# Altium schematic symbol library RD3399-20181013_Library.SchLib: 411 symbols (part 2 of 13)
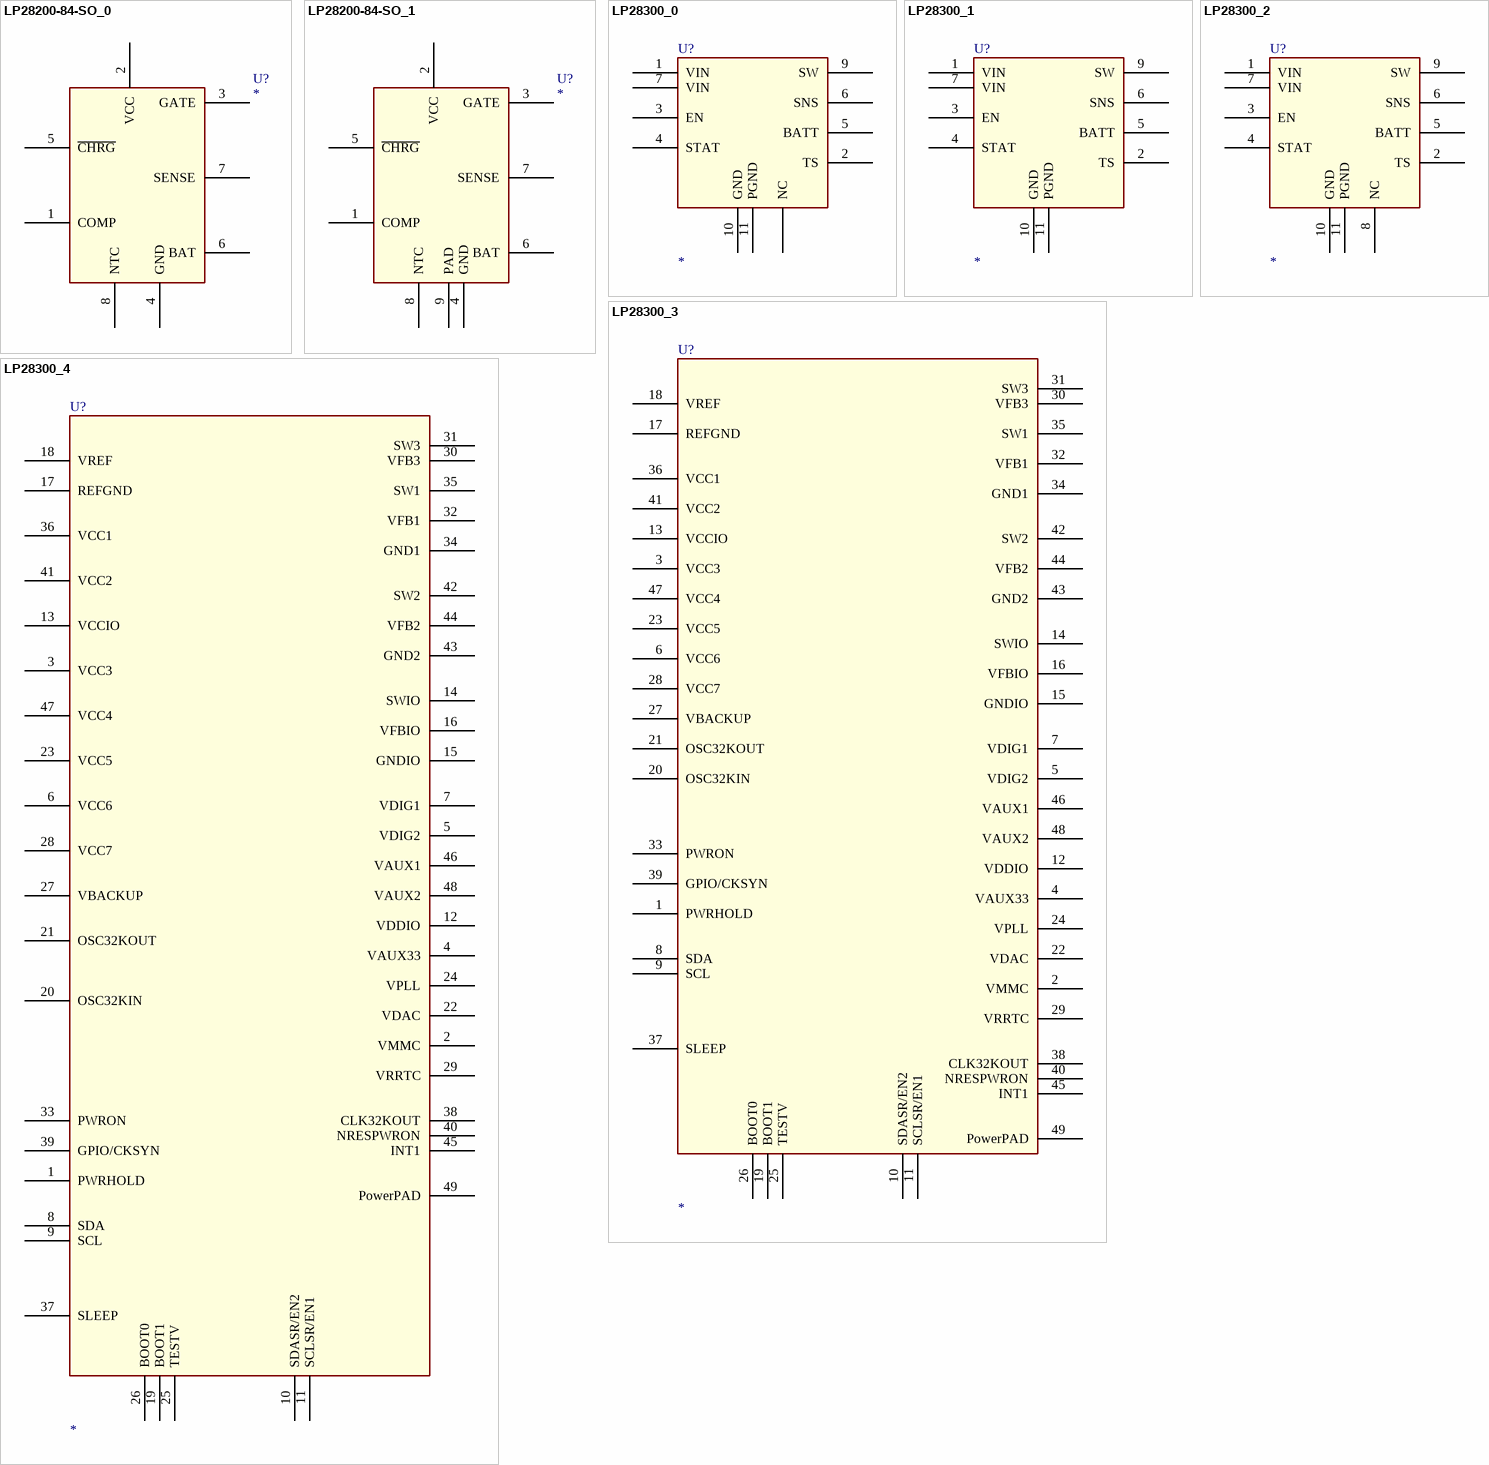
[diagram p186: symbols LP28200-84-SO_0 to LP28300_4]

## LP28300_3
designator U?
footprint TDFN10
pins: 1 PWRHOLD, 2 VMMC, 3 VCC3, 4 VAUX33, 5 VDIG2, 6 VCC6, 7 VDIG1, 8 SDA, 9 SCL, 10 SDASR/EN2, 11 SCLSR/EN1, 12 VDDIO, 13 VCCIO, 14 SWIO, 15 GNDIO, 16 VFBIO, 17 REFGND, 18 VREF, 19 BOOT1, 20 OSC32KIN, 21 OSC32KOUT, 22 VDAC, 23 VCC5, 24 VPLL, 25 TESTV, 26 BOOT0, 27 VBACKUP, 28 VCC7, 29 VRRTC, 30 VFB3, 31 SW3, 32 VFB1, 33 PWRON, 34 GND1, 35 SW1, 36 VCC1, 37 SLEEP, 38 CLK32KOUT, 39 GPIO/CKSYN, 40 NRESPWRON, 41 VCC2, 42 SW2, 43 GND2, 44 VFB2, 45 INT1, 46 VAUX1, 47 VCC4, 48 VAUX2, 49 PowerPAD

## LP28300_4
designator U?
footprint TDFN10
pins: 1 PWRHOLD, 2 VMMC, 3 VCC3, 4 VAUX33, 5 VDIG2, 6 VCC6, 7 VDIG1, 8 SDA, 9 SCL, 10 SDASR/EN2, 11 SCLSR/EN1, 12 VDDIO, 13 VCCIO, 14 SWIO, 15 GNDIO, 16 VFBIO, 17 REFGND, 18 VREF, 19 BOOT1, 20 OSC32KIN, 21 OSC32KOUT, 22 VDAC, 23 VCC5, 24 VPLL, 25 TESTV, 26 BOOT0, 27 VBACKUP, 28 VCC7, 29 VRRTC, 30 VFB3, 31 SW3, 32 VFB1, 33 PWRON, 34 GND1, 35 SW1, 36 VCC1, 37 SLEEP, 38 CLK32KOUT, 39 GPIO/CKSYN, 40 NRESPWRON, 41 VCC2, 42 SW2, 43 GND2, 44 VFB2, 45 INT1, 46 VAUX1, 47 VCC4, 48 VAUX2, 49 PowerPAD

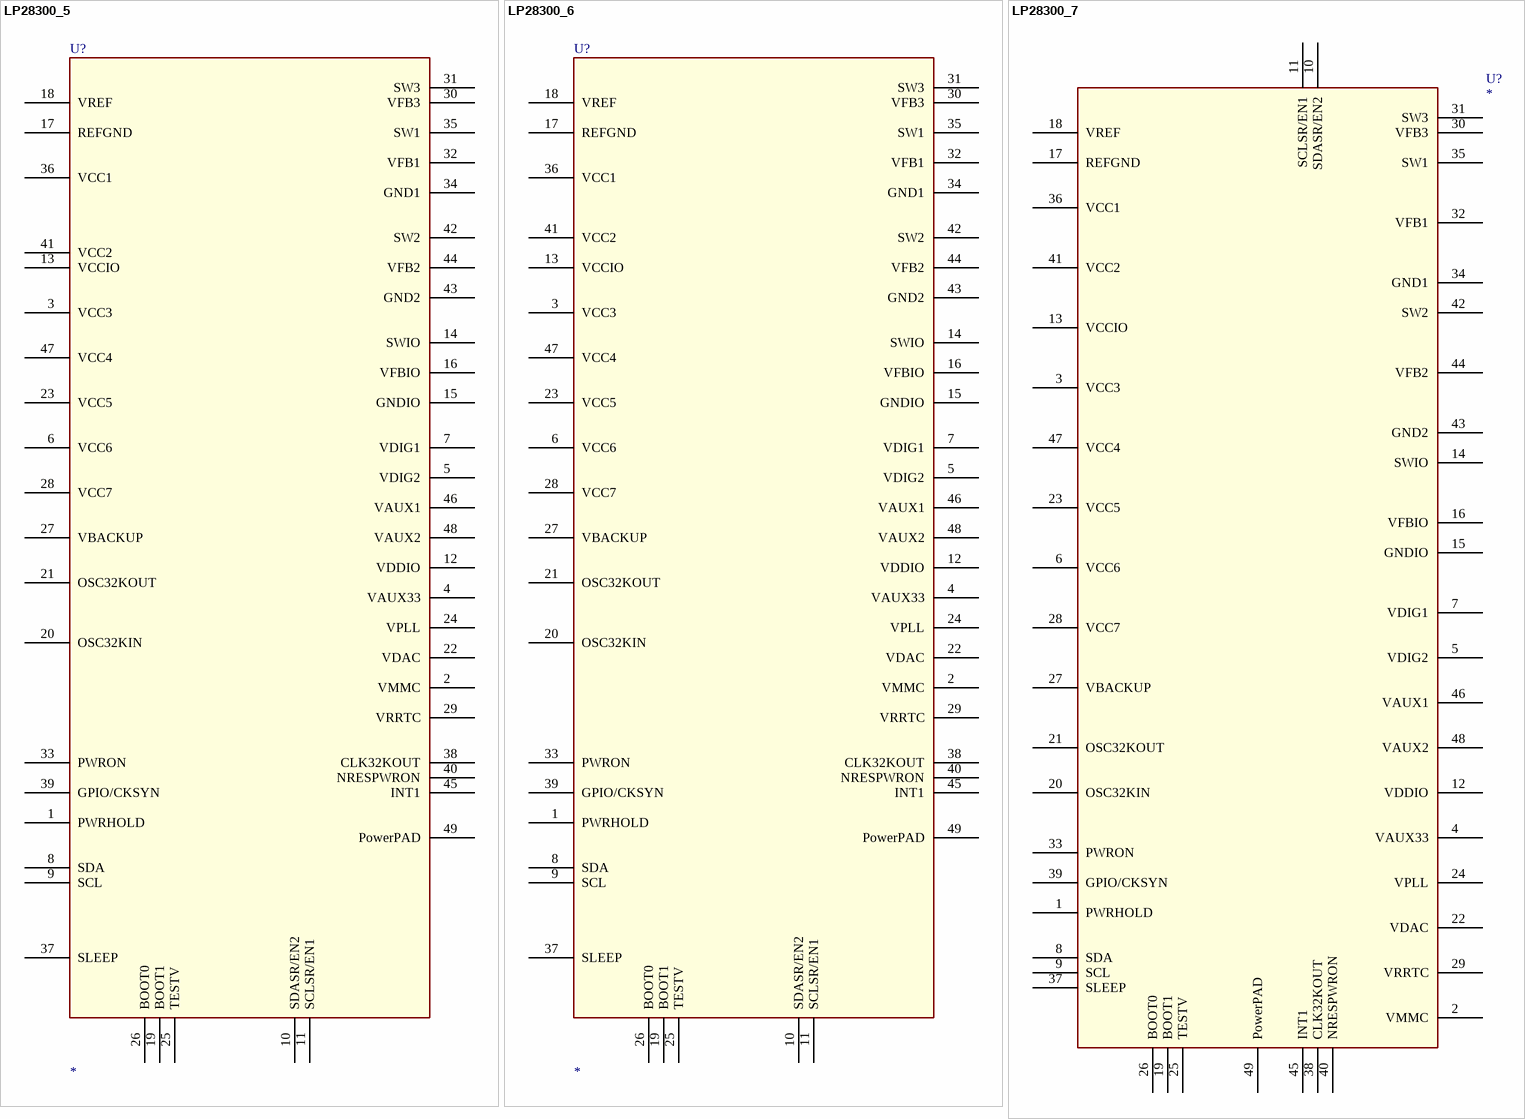
[diagram p14: symbols LP28300_5 to LP28300_7]

## LP28300_5
designator U?
footprint TDFN10
pins: 1 PWRHOLD, 2 VMMC, 3 VCC3, 4 VAUX33, 5 VDIG2, 6 VCC6, 7 VDIG1, 8 SDA, 9 SCL, 10 SDASR/EN2, 11 SCLSR/EN1, 12 VDDIO, 13 VCCIO, 14 SWIO, 15 GNDIO, 16 VFBIO, 17 REFGND, 18 VREF, 19 BOOT1, 20 OSC32KIN, 21 OSC32KOUT, 22 VDAC, 23 VCC5, 24 VPLL, 25 TESTV, 26 BOOT0, 27 VBACKUP, 28 VCC7, 29 VRRTC, 30 VFB3, 31 SW3, 32 VFB1, 33 PWRON, 34 GND1, 35 SW1, 36 VCC1, 37 SLEEP, 38 CLK32KOUT, 39 GPIO/CKSYN, 40 NRESPWRON, 41 VCC2, 42 SW2, 43 GND2, 44 VFB2, 45 INT1, 46 VAUX1, 47 VCC4, 48 VAUX2, 49 PowerPAD

## LP28300_6
designator U?
footprint TDFN10
pins: 1 PWRHOLD, 2 VMMC, 3 VCC3, 4 VAUX33, 5 VDIG2, 6 VCC6, 7 VDIG1, 8 SDA, 9 SCL, 10 SDASR/EN2, 11 SCLSR/EN1, 12 VDDIO, 13 VCCIO, 14 SWIO, 15 GNDIO, 16 VFBIO, 17 REFGND, 18 VREF, 19 BOOT1, 20 OSC32KIN, 21 OSC32KOUT, 22 VDAC, 23 VCC5, 24 VPLL, 25 TESTV, 26 BOOT0, 27 VBACKUP, 28 VCC7, 29 VRRTC, 30 VFB3, 31 SW3, 32 VFB1, 33 PWRON, 34 GND1, 35 SW1, 36 VCC1, 37 SLEEP, 38 CLK32KOUT, 39 GPIO/CKSYN, 40 NRESPWRON, 41 VCC2, 42 SW2, 43 GND2, 44 VFB2, 45 INT1, 46 VAUX1, 47 VCC4, 48 VAUX2, 49 PowerPAD

## LP28300_7
designator U?
footprint TDFN10
pins: 1 PWRHOLD, 2 VMMC, 3 VCC3, 4 VAUX33, 5 VDIG2, 6 VCC6, 7 VDIG1, 8 SDA, 9 SCL, 10 SDASR/EN2, 11 SCLSR/EN1, 12 VDDIO, 13 VCCIO, 14 SWIO, 15 GNDIO, 16 VFBIO, 17 REFGND, 18 VREF, 19 BOOT1, 20 OSC32KIN, 21 OSC32KOUT, 22 VDAC, 23 VCC5, 24 VPLL, 25 TESTV, 26 BOOT0, 27 VBACKUP, 28 VCC7, 29 VRRTC, 30 VFB3, 31 SW3, 32 VFB1, 33 PWRON, 34 GND1, 35 SW1, 36 VCC1, 37 SLEEP, 38 CLK32KOUT, 39 GPIO/CKSYN, 40 NRESPWRON, 41 VCC2, 42 SW2, 43 GND2, 44 VFB2, 45 INT1, 46 VAUX1, 47 VCC4, 48 VAUX2, 49 PowerPAD

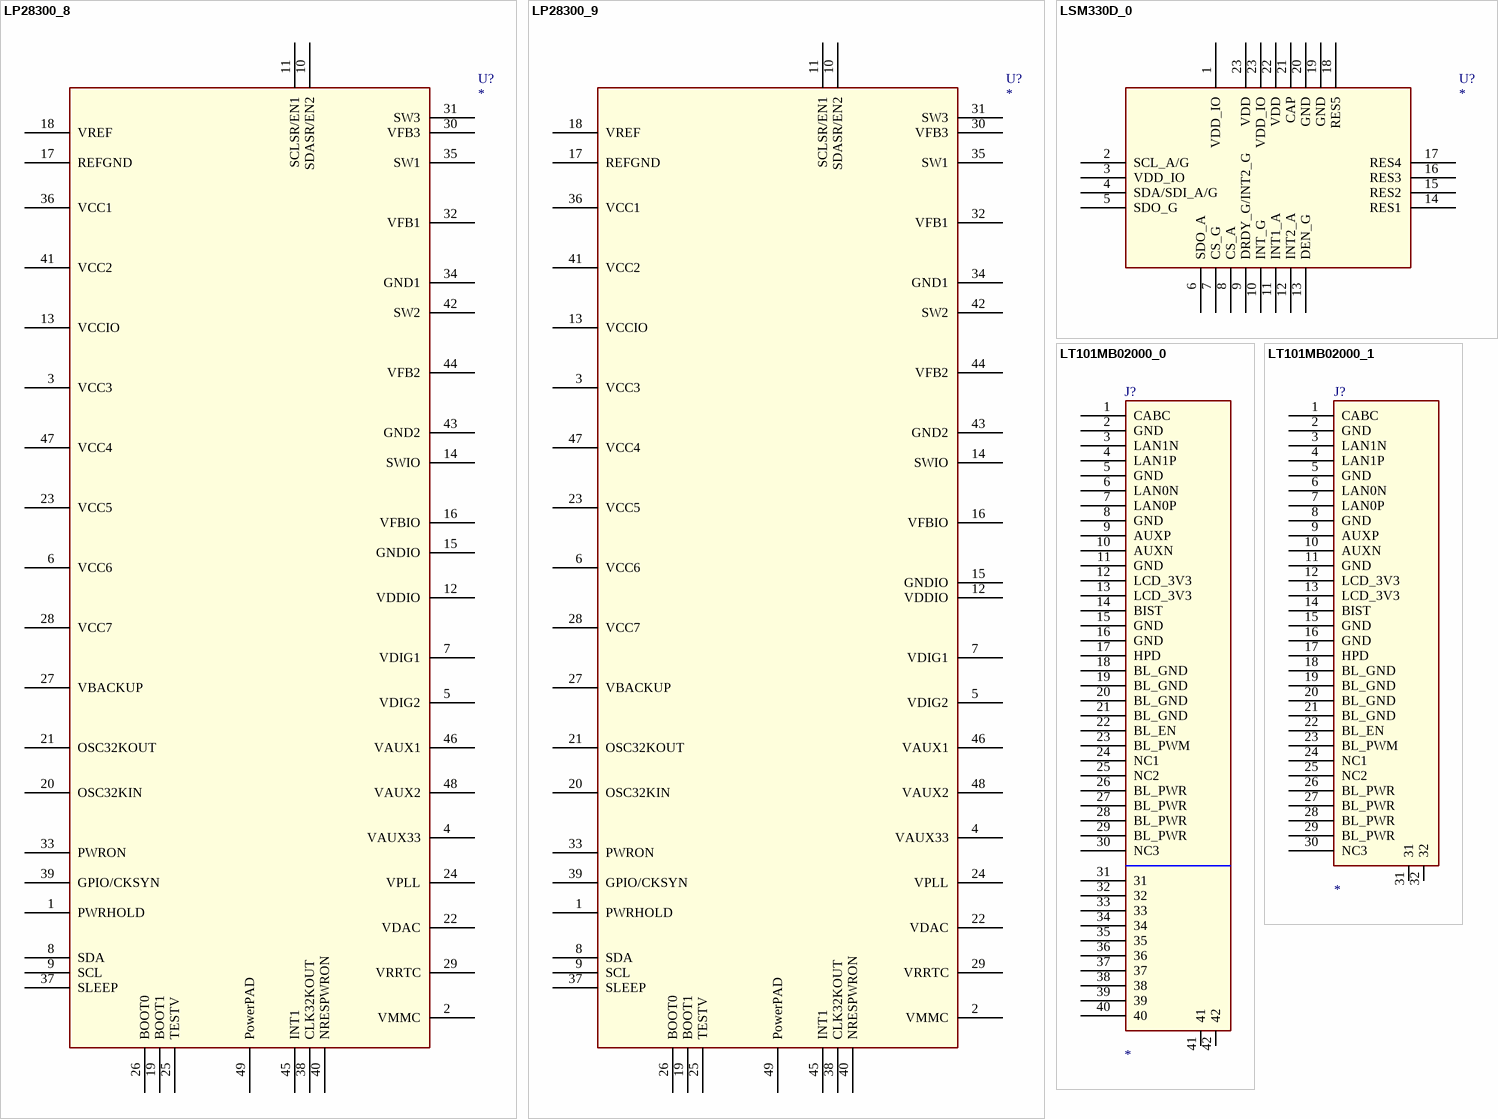
[diagram p15: symbols LP28300_8 to LT101MB02000_1]

## LP28300_8
designator U?
footprint TDFN10
pins: 1 PWRHOLD, 2 VMMC, 3 VCC3, 4 VAUX33, 5 VDIG2, 6 VCC6, 7 VDIG1, 8 SDA, 9 SCL, 10 SDASR/EN2, 11 SCLSR/EN1, 12 VDDIO, 13 VCCIO, 14 SWIO, 15 GNDIO, 16 VFBIO, 17 REFGND, 18 VREF, 19 BOOT1, 20 OSC32KIN, 21 OSC32KOUT, 22 VDAC, 23 VCC5, 24 VPLL, 25 TESTV, 26 BOOT0, 27 VBACKUP, 28 VCC7, 29 VRRTC, 30 VFB3, 31 SW3, 32 VFB1, 33 PWRON, 34 GND1, 35 SW1, 36 VCC1, 37 SLEEP, 38 CLK32KOUT, 39 GPIO/CKSYN, 40 NRESPWRON, 41 VCC2, 42 SW2, 43 GND2, 44 VFB2, 45 INT1, 46 VAUX1, 47 VCC4, 48 VAUX2, 49 PowerPAD

## LP28300_9
designator U?
footprint TDFN10
pins: 1 PWRHOLD, 2 VMMC, 3 VCC3, 4 VAUX33, 5 VDIG2, 6 VCC6, 7 VDIG1, 8 SDA, 9 SCL, 10 SDASR/EN2, 11 SCLSR/EN1, 12 VDDIO, 13 VCCIO, 14 SWIO, 15 GNDIO, 16 VFBIO, 17 REFGND, 18 VREF, 19 BOOT1, 20 OSC32KIN, 21 OSC32KOUT, 22 VDAC, 23 VCC5, 24 VPLL, 25 TESTV, 26 BOOT0, 27 VBACKUP, 28 VCC7, 29 VRRTC, 30 VFB3, 31 SW3, 32 VFB1, 33 PWRON, 34 GND1, 35 SW1, 36 VCC1, 37 SLEEP, 38 CLK32KOUT, 39 GPIO/CKSYN, 40 NRESPWRON, 41 VCC2, 42 SW2, 43 GND2, 44 VFB2, 45 INT1, 46 VAUX1, 47 VCC4, 48 VAUX2, 49 PowerPAD

## LSM330D_0
designator U?
footprint L3G4200D
pins: 1 VDD_IO, 2 SCL_A/G, 3 VDD_IO, 4 SDA/SDI_A/G, 5 SDO_G, 6 SDO_A, 7 CS_G, 8 CS_A, 9 DRDY_G/INT2_G, 10 INT_G, 11 INT1_A, 12 INT2_A, 13 DEN_G, 14 RES1, 15 RES2, 16 RES3, 17 RES4, 18 RES5, 19 GND (power), 20 GND (power), 21 CAP, 22 VDD, 23 VDD, 23 VDD_IO

## LT101MB02000_0
designator J?
pins: 1 CABC, 2 GND (power), 3 LAN1N, 4 LAN1P, 5 GND (power), 6 LAN0N, 7 LAN0P, 8 GND (power), 9 AUXP, 10 AUXN, 11 GND (power), 12 LCD_3V3 (power), 13 LCD_3V3 (power), 14 BIST, 15 GND (power), 16 GND (power), 17 HPD, 18 BL_GND (power), 19 BL_GND (power), 20 BL_GND (power), 21 BL_GND (power), 22 BL_EN, 23 BL_PWM, 24 NC1, 25 NC2, 26 BL_PWR (power), 27 BL_PWR (power), 28 BL_PWR (power), 29 BL_PWR (power), 30 NC3, 31, 32, 33, 34, 35, 36, 37, 38, 39, 40, 41, 42

## LT101MB02000_1
designator J?
pins: 1 CABC, 2 GND (power), 3 LAN1N, 4 LAN1P, 5 GND (power), 6 LAN0N, 7 LAN0P, 8 GND (power), 9 AUXP, 10 AUXN, 11 GND (power), 12 LCD_3V3 (power), 13 LCD_3V3 (power), 14 BIST, 15 GND (power), 16 GND (power), 17 HPD, 18 BL_GND (power), 19 BL_GND (power), 20 BL_GND (power), 21 BL_GND (power), 22 BL_EN, 23 BL_PWM, 24 NC1, 25 NC2, 26 BL_PWR (power), 27 BL_PWR (power), 28 BL_PWR (power), 29 BL_PWR (power), 30 NC3, 31, 32

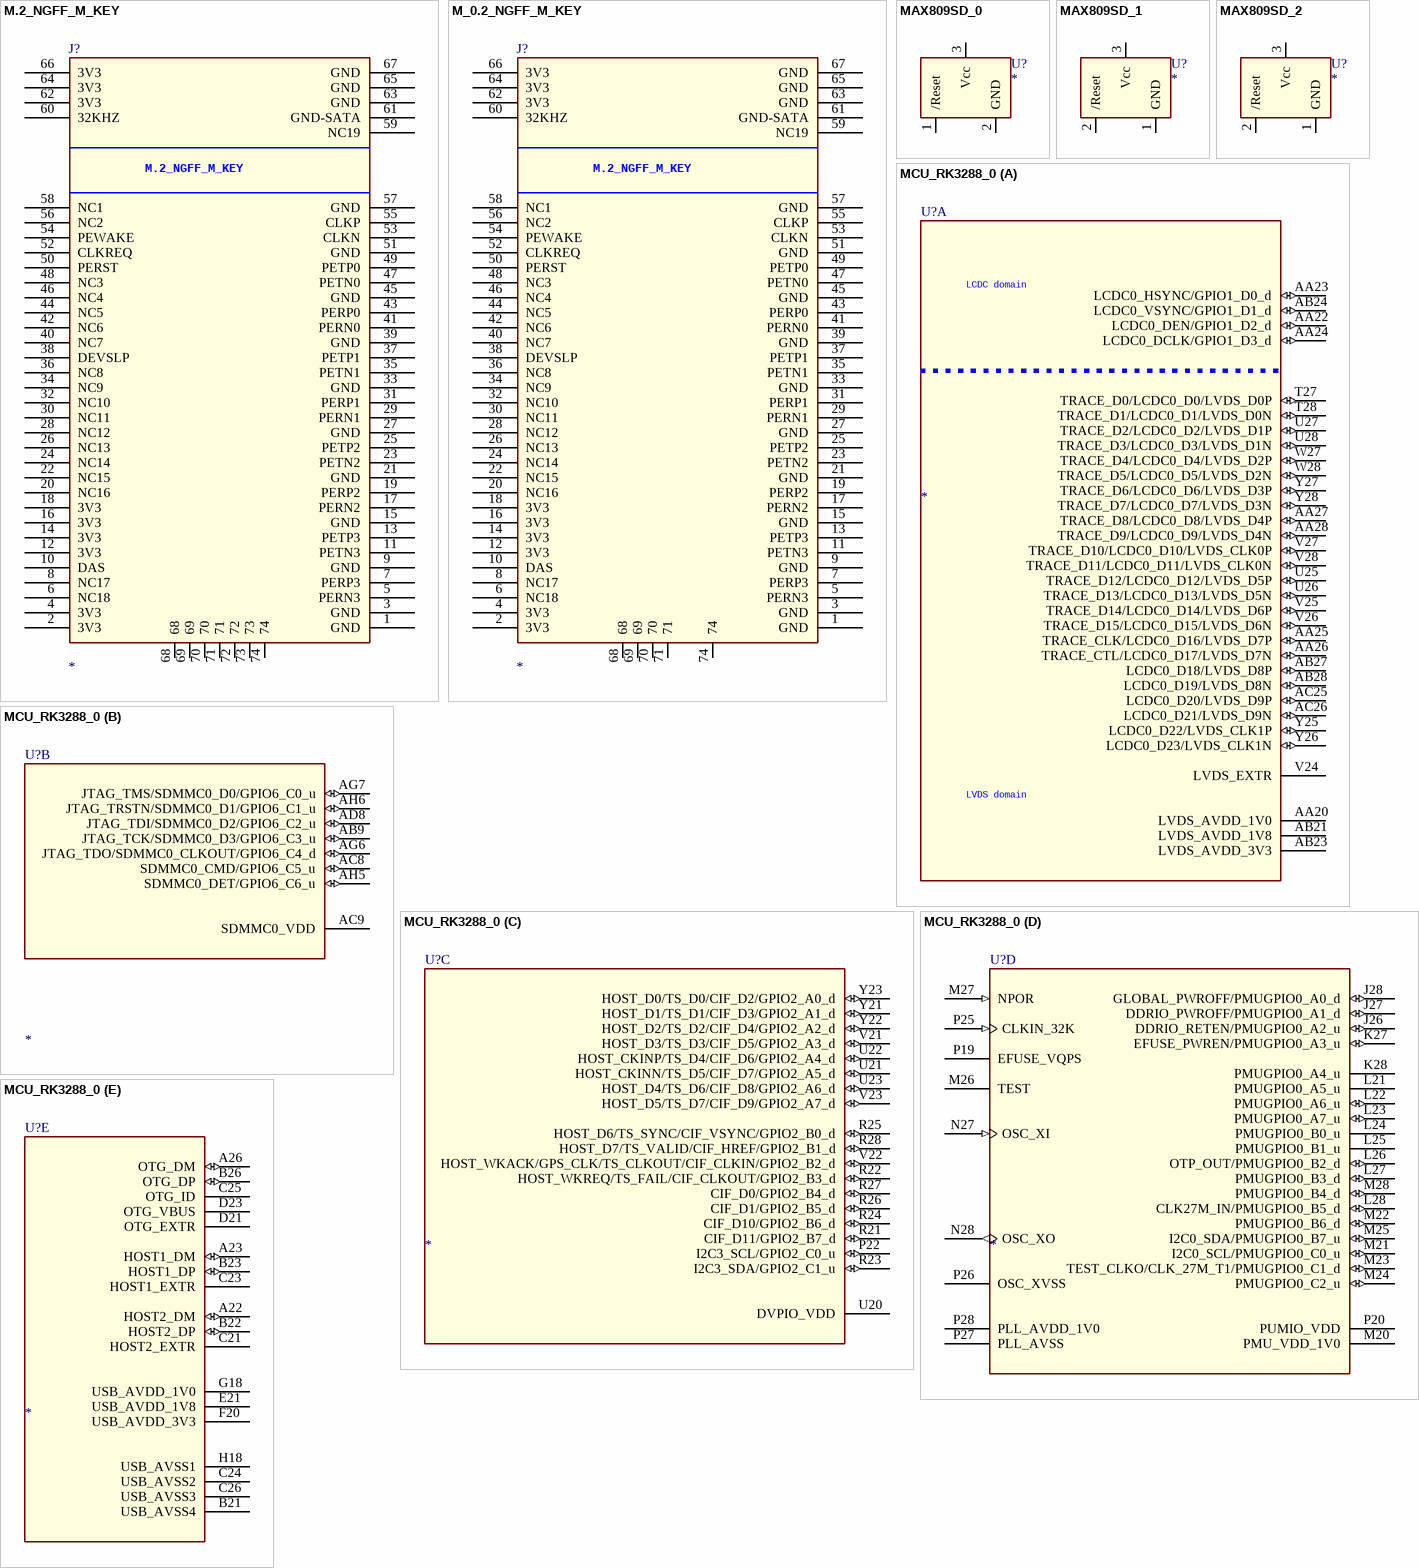
[diagram p16: symbols M.2_NGFF_M_KEY to MCU_RK3288_0]

## M.2_NGFF_M_KEY
designator J?
pins: 1 GND (power), 2 3V3 (power), 3 GND (power), 4 3V3 (power), 5 PERN3, 6 NC18, 7 PERP3, 8 NC17, 9 GND (power), 10 DAS, 11 PETN3, 12 3V3 (power), 13 PETP3, 14 3V3 (power), 15 GND (power), 16 3V3 (power), 17 PERN2, 18 3V3 (power), 19 PERP2, 20 NC16, 21 GND (power), 22 NC15, 23 PETN2, 24 NC14, 25 PETP2, 26 NC13, 27 GND (power), 28 NC12, 29 PERN1, 30 NC11, 31 PERP1, 32 NC10, 33 GND (power), 34 NC9, 35 PETN1, 36 NC8, 37 PETP1, 38 DEVSLP, 39 GND (power), 40 NC7, 41 PERN0, 42 NC6, 43 PERP0, 44 NC5, 45 GND (power), 46 NC4, 47 PETN0, 48 NC3, 49 PETP0, 50 PERST, 51 GND (power), 52 CLKREQ, 53 CLKN, 54 PEWAKE, 55 CLKP, 56 NC2, 57 GND (power), 58 NC1, 59 NC19, 60 32KHZ, 61 GND-SATA, 62 3V3 (power), 63 GND (power), 64 3V3 (power), 65 GND (power), 66 3V3 (power), 67 GND (power), 68, 69, 70, 71, 72, 73, 74

## M_0.2_NGFF_M_KEY
designator J?
pins: 1 GND (power), 2 3V3 (power), 3 GND (power), 4 3V3 (power), 5 PERN3, 6 NC18, 7 PERP3, 8 NC17, 9 GND (power), 10 DAS, 11 PETN3, 12 3V3 (power), 13 PETP3, 14 3V3 (power), 15 GND (power), 16 3V3 (power), 17 PERN2, 18 3V3 (power), 19 PERP2, 20 NC16, 21 GND (power), 22 NC15, 23 PETN2, 24 NC14, 25 PETP2, 26 NC13, 27 GND (power), 28 NC12, 29 PERN1, 30 NC11, 31 PERP1, 32 NC10, 33 GND (power), 34 NC9, 35 PETN1, 36 NC8, 37 PETP1, 38 DEVSLP, 39 GND (power), 40 NC7, 41 PERN0, 42 NC6, 43 PERP0, 44 NC5, 45 GND (power), 46 NC4, 47 PETN0, 48 NC3, 49 PETP0, 50 PERST, 51 GND (power), 52 CLKREQ, 53 CLKN, 54 PEWAKE, 55 CLKP, 56 NC2, 57 GND (power), 58 NC1, 59 NC19, 60 32KHZ, 61 GND-SATA, 62 3V3 (power), 63 GND (power), 64 3V3 (power), 65 GND (power), 66 3V3 (power), 67 GND (power), 68, 69, 70, 71, 74
text: M.2_NGFF_M_KEY

## MAX809SD_0
designator U?
pins: 1 /Reset, 2 GND, 3 Vcc

## MAX809SD_1
designator U?
pins: 1 GND, 2 /Reset, 3 Vcc

## MAX809SD_2
designator U?
pins: 1 GND, 2 /Reset, 3 Vcc

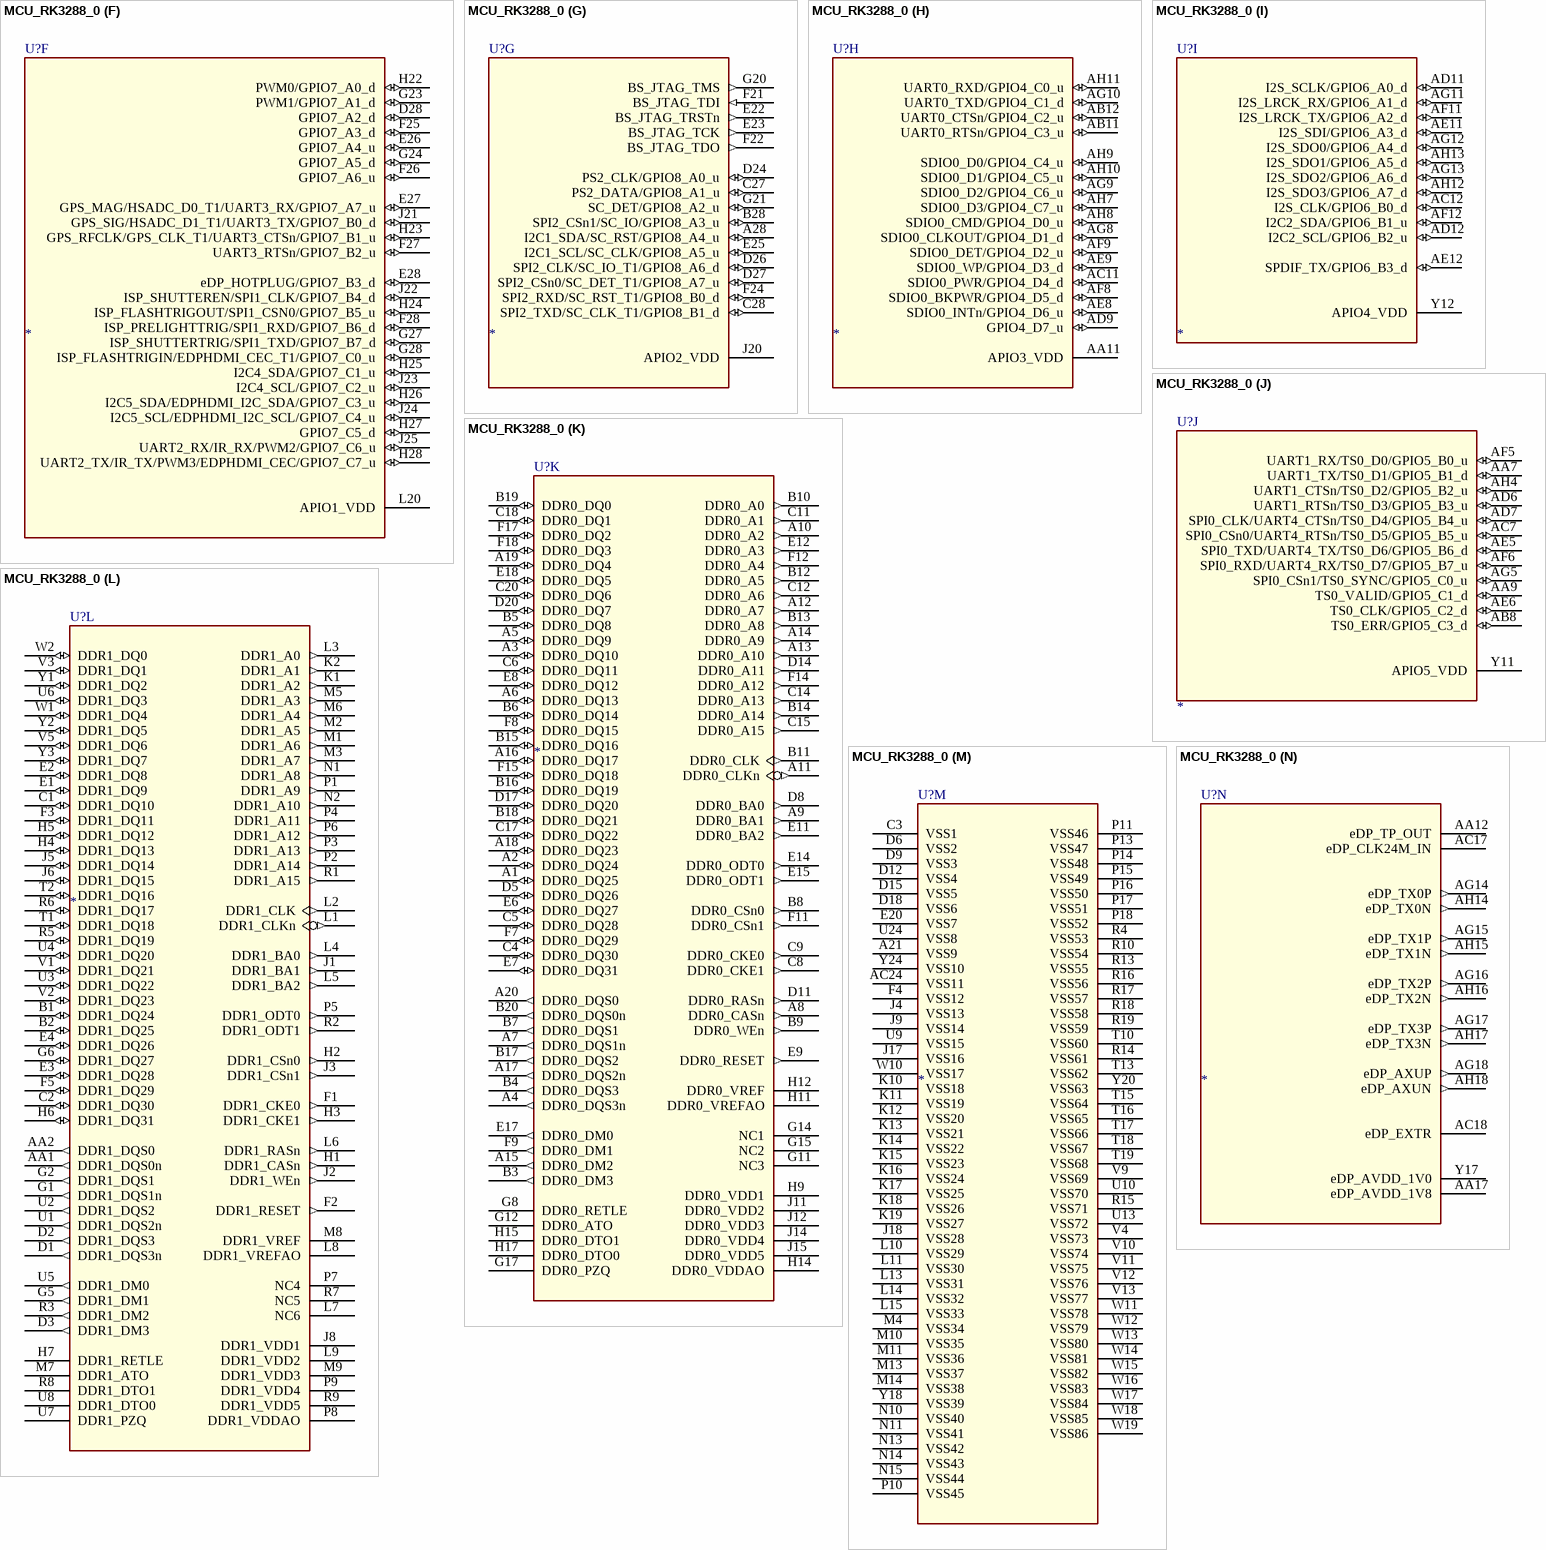
[diagram p17: symbol MCU_RK3288_0]

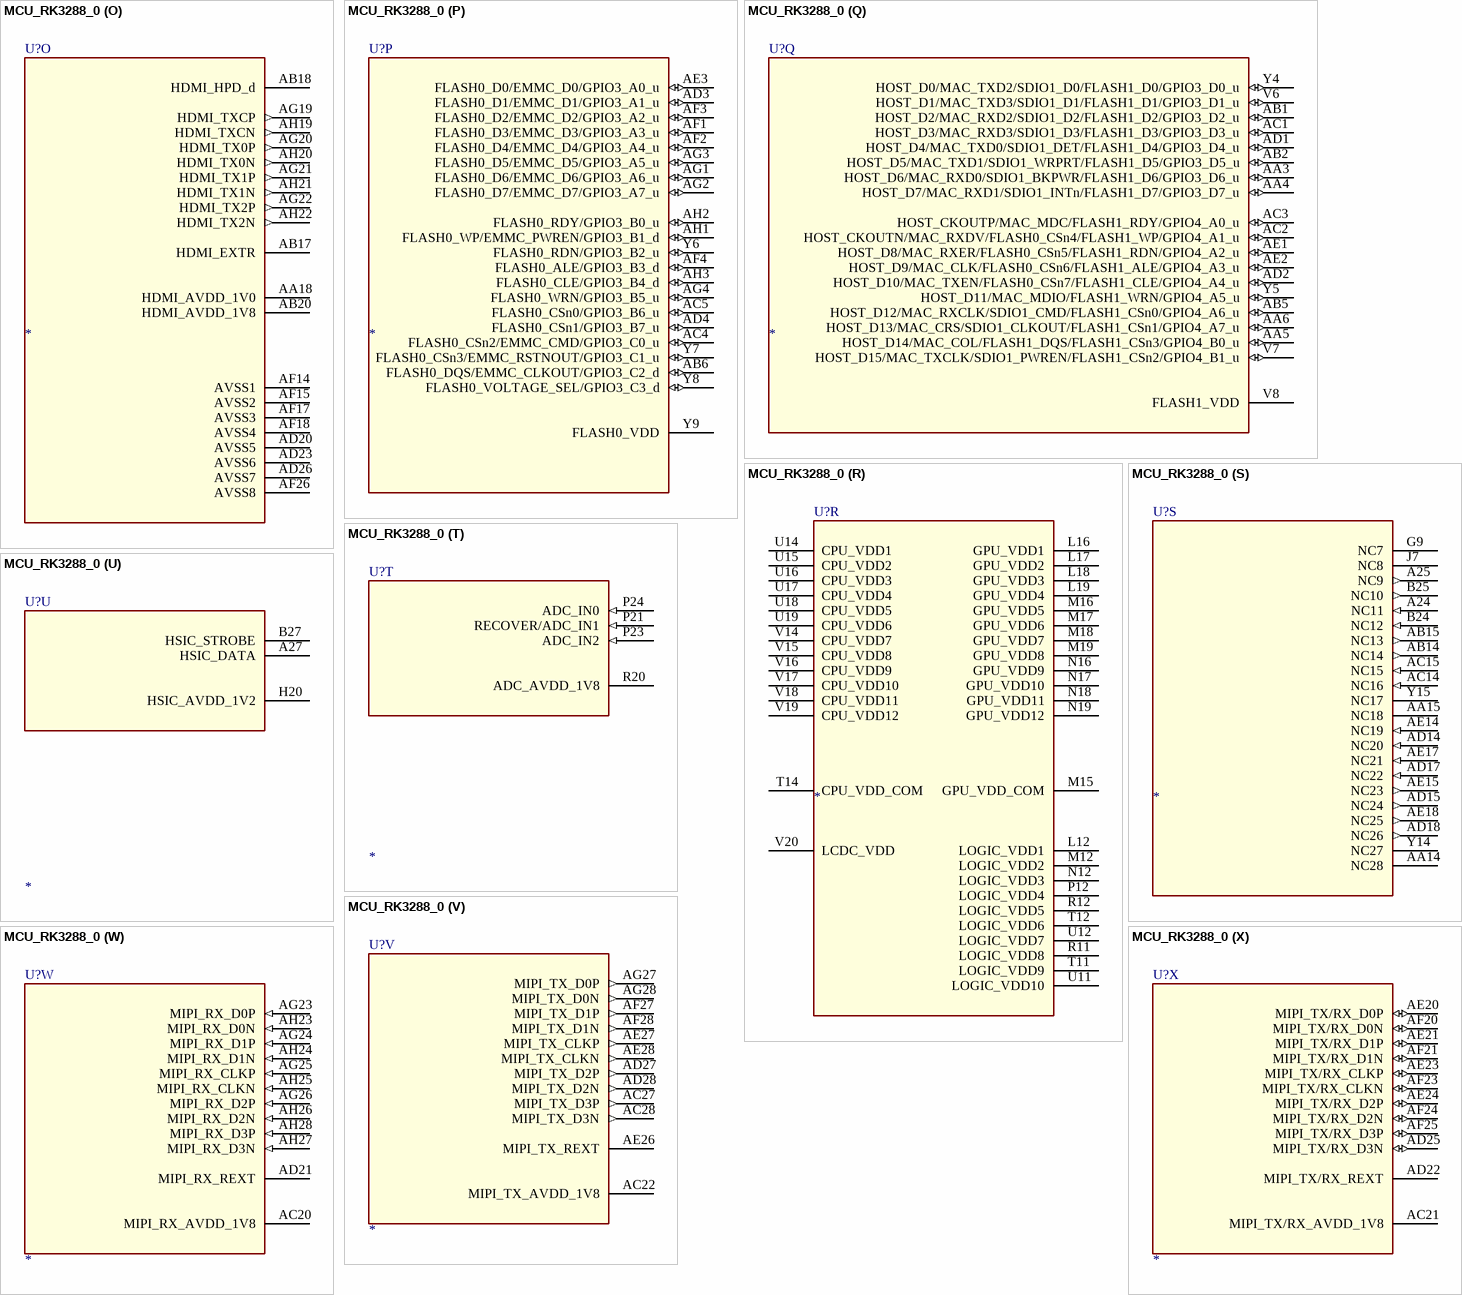
[diagram p18: symbol MCU_RK3288_0]

## MCU_RK3288_0
designator U?
footprint BGA453-19X19
part A pins: AA20 LVDS_AVDD_1V0 (power), AA22 LCDC0_DEN/GPIO1_D2_d (io), AA23 LCDC0_HSYNC/GPIO1_D0_d (io), AA24 LCDC0_DCLK/GPIO1_D3_d (io), AA25 TRACE_CLK/LCDC0_D16/LVDS_D7P (io), AA26 TRACE_CTL/LCDC0_D17/LVDS_D7N (io), AA27 TRACE_D8/LCDC0_D8/LVDS_D4P (io), AA28 TRACE_D9/LCDC0_D9/LVDS_D4N (io), AB21 LVDS_AVDD_1V8 (power), AB23 LVDS_AVDD_3V3 (power), AB24 LCDC0_VSYNC/GPIO1_D1_d (io), AB27 LCDC0_D18/LVDS_D8P (io), AB28 LCDC0_D19/LVDS_D8N (io), AC25 LCDC0_D20/LVDS_D9P (io), AC26 LCDC0_D21/LVDS_D9N (io), T27 TRACE_D0/LCDC0_D0/LVDS_D0P (io), T28 TRACE_D1/LCDC0_D1/LVDS_D0N (io), U25 TRACE_D12/LCDC0_D12/LVDS_D5P (io), U26 TRACE_D13/LCDC0_D13/LVDS_D5N (io), U27 TRACE_D2/LCDC0_D2/LVDS_D1P (io), U28 TRACE_D3/LCDC0_D3/LVDS_D1N (io), V24 LVDS_EXTR, V25 TRACE_D14/LCDC0_D14/LVDS_D6P (io), V26 TRACE_D15/LCDC0_D15/LVDS_D6N (io), V27 TRACE_D10/LCDC0_D10/LVDS_CLK0P (io), V28 TRACE_D11/LCDC0_D11/LVDS_CLK0N (io), W27 TRACE_D4/LCDC0_D4/LVDS_D2P (io), W28 TRACE_D5/LCDC0_D5/LVDS_D2N (io), Y25 LCDC0_D22/LVDS_CLK1P (io), Y26 LCDC0_D23/LVDS_CLK1N (io), Y27 TRACE_D6/LCDC0_D6/LVDS_D3P (io), Y28 TRACE_D7/LCDC0_D7/LVDS_D3N (io)
part B pins: AB9 JTAG_TCK/SDMMC0_D3/GPIO6_C3_u (io), AC8 SDMMC0_CMD/GPIO6_C5_u (io), AC9 SDMMC0_VDD (power), AD8 JTAG_TDI/SDMMC0_D2/GPIO6_C2_u (io), AG6 JTAG_TDO/SDMMC0_CLKOUT/GPIO6_C4_d (io), AG7 JTAG_TMS/SDMMC0_D0/GPIO6_C0_u (io), AH5 SDMMC0_DET/GPIO6_C6_u (io), AH6 JTAG_TRSTN/SDMMC0_D1/GPIO6_C1_u (io)
part C pins: P22 I2C3_SCL/GPIO2_C0_u (io), R21 CIF_D11/GPIO2_B7_d (io), R22 HOST_WKREQ/TS_FAIL/CIF_CLKOUT/GPIO2_B3_d (io), R23 I2C3_SDA/GPIO2_C1_u (io), R24 CIF_D10/GPIO2_B6_d (io), R25 HOST_D6/TS_SYNC/CIF_VSYNC/GPIO2_B0_d (io), R26 CIF_D1/GPIO2_B5_d (io), R27 CIF_D0/GPIO2_B4_d (io), R28 HOST_D7/TS_VALID/CIF_HREF/GPIO2_B1_d (io), U20 DVPIO_VDD (power), U21 HOST_CKINN/TS_D5/CIF_D7/GPIO2_A5_d (io), U22 HOST_CKINP/TS_D4/CIF_D6/GPIO2_A4_d (io), U23 HOST_D4/TS_D6/CIF_D8/GPIO2_A6_d (io), V21 HOST_D3/TS_D3/CIF_D5/GPIO2_A3_d (io), V22 HOST_WKACK/GPS_CLK/TS_CLKOUT/CIF_CLKIN/GPIO2_B2_d (io), V23 HOST_D5/TS_D7/CIF_D9/GPIO2_A7_d (io), Y21 HOST_D1/TS_D1/CIF_D3/GPIO2_A1_d (io), Y22 HOST_D2/TS_D2/CIF_D4/GPIO2_A2_d (io), Y23 HOST_D0/TS_D0/CIF_D2/GPIO2_A0_d (io)
part D pins: J26 DDRIO_RETEN/PMUGPIO0_A2_u (io), J27 DDRIO_PWROFF/PMUGPIO0_A1_d (io), J28 GLOBAL_PWROFF/PMUGPIO0_A0_d (io), K27 EFUSE_PWREN/PMUGPIO0_A3_u (io), K28 PMUGPIO0_A4_u, L21 PMUGPIO0_A5_u, L22 PMUGPIO0_A6_u (io), L23 PMUGPIO0_A7_u (io), L24 PMUGPIO0_B0_u, L25 PMUGPIO0_B1_u, L26 OTP_OUT/PMUGPIO0_B2_d (io), L27 PMUGPIO0_B3_d (io), L28 CLK27M_IN/PMUGPIO0_B5_d (io), M20 PMU_VDD_1V0 (power), M21 I2C0_SCL/PMUGPIO0_C0_u (io), M22 PMUGPIO0_B6_d (io), M23 TEST_CLKO/CLK_27M_T1/PMUGPIO0_C1_d (io), M24 PMUGPIO0_C2_u (io), M25 I2C0_SDA/PMUGPIO0_B7_u (io), M26 TEST, M27 NPOR (in), M28 PMUGPIO0_B4_d (io), N27 OSC_XI (in), N28 OSC_XO (out), P19 EFUSE_VQPS (power), P20 PUMIO_VDD (power), P25 CLKIN_32K (in), P26 OSC_XVSS (power), P27 PLL_AVSS (power), P28 PLL_AVDD_1V0 (power)
part E pins: A22 HOST2_DM (io), A23 HOST1_DM (io), A26 OTG_DM (io), B21 USB_AVSS4 (power), B22 HOST2_DP (io), B23 HOST1_DP (io), B26 OTG_DP (io), C21 HOST2_EXTR, C23 HOST1_EXTR, C24 USB_AVSS2 (power), C25 OTG_ID, C26 USB_AVSS3 (power), D21 OTG_EXTR, D23 OTG_VBUS, E21 USB_AVDD_1V8 (power), F20 USB_AVDD_3V3 (power), G18 USB_AVDD_1V0 (power), H18 USB_AVSS1 (power)
part F pins: D28 GPIO7_A2_d (io), E26 GPIO7_A4_u (io), E27 GPS_MAG/HSADC_D0_T1/UART3_RX/GPIO7_A7_u (io), E28 eDP_HOTPLUG/GPIO7_B3_d (io), F25 GPIO7_A3_d (io), F26 GPIO7_A6_u (io), F27 UART3_RTSn/GPIO7_B2_u (io), F28 ISP_PRELIGHTTRIG/SPI1_RXD/GPIO7_B6_d (io), G23 PWM1/GPIO7_A1_d (io), G24 GPIO7_A5_d (io), G27 ISP_SHUTTERTRIG/SPI1_TXD/GPIO7_B7_d (io), G28 ISP_FLASHTRIGIN/EDPHDMI_CEC_T1/GPIO7_C0_u (io), H22 PWM0/GPIO7_A0_d (io), H23 GPS_RFCLK/GPS_CLK_T1/UART3_CTSn/GPIO7_B1_u (io), H24 ISP_FLASHTRIGOUT/SPI1_CSN0/GPIO7_B5_u (io), H25 I2C4_SDA/GPIO7_C1_u (io), H26 I2C5_SDA/EDPHDMI_I2C_SDA/GPIO7_C3_u (io), H27 GPIO7_C5_d (io), H28 UART2_TX/IR_TX/PWM3/EDPHDMI_CEC/GPIO7_C7_u (io), J21 GPS_SIG/HSADC_D1_T1/UART3_TX/GPIO7_B0_d (io), J22 ISP_SHUTTEREN/SPI1_CLK/GPIO7_B4_d (io), J23 I2C4_SCL/GPIO7_C2_u (io), J24 I2C5_SCL/EDPHDMI_I2C_SCL/GPIO7_C4_u (io), J25 UART2_RX/IR_RX/PWM2/GPIO7_C6_u (io), L20 APIO1_VDD (power)
part G pins: A28 I2C1_SDA/SC_RST/GPIO8_A4_u (io), B28 SPI2_CSn1/SC_IO/GPIO8_A3_u (io), C27 PS2_DATA/GPIO8_A1_u (io), C28 SPI2_TXD/SC_CLK_T1/GPIO8_B1_d (io), D24 PS2_CLK/GPIO8_A0_u (io), D26 SPI2_CLK/SC_IO_T1/GPIO8_A6_d (io), D27 SPI2_CSn0/SC_DET_T1/GPIO8_A7_u (io), E22 BS_JTAG_TRSTn (out), E23 BS_JTAG_TCK (out), E25 I2C1_SCL/SC_CLK/GPIO8_A5_u (io), F21 BS_JTAG_TDI (in), F22 BS_JTAG_TDO (out), F24 SPI2_RXD/SC_RST_T1/GPIO8_B0_d (io), G20 BS_JTAG_TMS (out), G21 SC_DET/GPIO8_A2_u (io), J20 APIO2_VDD (power)
part H pins: AA11 APIO3_VDD (power), AB11 UART0_RTSn/GPIO4_C3_u (io), AB12 UART0_CTSn/GPIO4_C2_u (io), AC11 SDIO0_PWR/GPIO4_D4_d (io), AD9 GPIO4_D7_u (io), AE8 SDIO0_INTn/GPIO4_D6_u (io), AE9 SDIO0_WP/GPIO4_D3_d (io), AF8 SDIO0_BKPWR/GPIO4_D5_d (io), AF9 SDIO0_DET/GPIO4_D2_u (io), AG8 SDIO0_CLKOUT/GPIO4_D1_d (io), AG9 SDIO0_D2/GPIO4_C6_u (io), AG10 UART0_TXD/GPIO4_C1_d (io), AH7 SDIO0_D3/GPIO4_C7_u (io), AH8 SDIO0_CMD/GPIO4_D0_u (io), AH9 SDIO0_D0/GPIO4_C4_u (io), AH10 SDIO0_D1/GPIO4_C5_u (io), AH11 UART0_RXD/GPIO4_C0_u (io)
part I pins: AC12 I2S_CLK/GPIO6_B0_d (io), AD11 I2S_SCLK/GPIO6_A0_d (io), AD12 I2C2_SCL/GPIO6_B2_u (io), AE11 I2S_SDI/GPIO6_A3_d (io), AE12 SPDIF_TX/GPIO6_B3_d (io), AF11 I2S_LRCK_TX/GPIO6_A2_d (io), AF12 I2C2_SDA/GPIO6_B1_u (io), AG11 I2S_LRCK_RX/GPIO6_A1_d (io), AG12 I2S_SDO0/GPIO6_A4_d (io), AG13 I2S_SDO2/GPIO6_A6_d (io), AH12 I2S_SDO3/GPIO6_A7_d (io), AH13 I2S_SDO1/GPIO6_A5_d (io), Y12 APIO4_VDD (power)
part J pins: AA7 UART1_TX/TS0_D1/GPIO5_B1_d (io), AA9 TS0_VALID/GPIO5_C1_d (io), AB8 TS0_ERR/GPIO5_C3_d (io), AC7 SPI0_CSn0/UART4_RTSn/TS0_D5/GPIO5_B5_u (io), AD6 UART1_RTSn/TS0_D3/GPIO5_B3_u (io), AD7 SPI0_CLK/UART4_CTSn/TS0_D4/GPIO5_B4_u (io), AE5 SPI0_TXD/UART4_TX/TS0_D6/GPIO5_B6_d (io), AE6 TS0_CLK/GPIO5_C2_d (io), AF5 UART1_RX/TS0_D0/GPIO5_B0_u (io), AF6 SPI0_RXD/UART4_RX/TS0_D7/GPIO5_B7_u (io), AG5 SPI0_CSn1/TS0_SYNC/GPIO5_C0_u (io), AH4 UART1_CTSn/TS0_D2/GPIO5_B2_u (io), Y11 APIO5_VDD (power)
part K pins: A1 DDR0_DQ25 (io), A2 DDR0_DQ24 (io), A3 DDR0_DQ10 (io), A4 DDR0_DQS3n (out), A5 DDR0_DQ9 (io), A6 DDR0_DQ13 (io), A7 DDR0_DQS1n (out), A8 DDR0_CASn (out), A9 DDR0_BA1 (out), A10 DDR0_A2 (out), A11 DDR0_CLKn (out), A12 DDR0_A7 (out), A13 DDR0_A10 (out), A14 DDR0_A9 (out), A15 DDR0_DM2 (out), A16 DDR0_DQ17 (io), A17 DDR0_DQS2n (out), A18 DDR0_DQ23 (io), A19 DDR0_DQ4 (io), A20 DDR0_DQS0 (out), B3 DDR0_DM3 (out), B4 DDR0_DQS3 (out), B5 DDR0_DQ8 (io), B6 DDR0_DQ14 (io), B7 DDR0_DQS1 (out), B8 DDR0_CSn0 (out), B9 DDR0_WEn (out), B10 DDR0_A0 (out), B11 DDR0_CLK (out), B12 DDR0_A5 (out), B13 DDR0_A8 (out), B14 DDR0_A14 (out), B15 DDR0_DQ16 (io), B16 DDR0_DQ19 (io), B17 DDR0_DQS2 (out), B18 DDR0_DQ21 (io), B19 DDR0_DQ0 (io), B20 DDR0_DQS0n (out), C4 DDR0_DQ30 (io), C5 DDR0_DQ28 (io), C6 DDR0_DQ11 (io), C8 DDR0_CKE1 (out), C9 DDR0_CKE0 (out), C11 DDR0_A1 (out), C12 DDR0_A6 (out), C14 DDR0_A13 (out), C15 DDR0_A15 (out), C17 DDR0_DQ22 (io), C18 DDR0_DQ1 (io), C20 DDR0_DQ6 (io), D5 DDR0_DQ26 (io), D8 DDR0_BA0 (out), D11 DDR0_RASn (out), D14 DDR0_A11 (out), D17 DDR0_DQ20 (io), D20 DDR0_DQ7 (io), E6 DDR0_DQ27 (io), E7 DDR0_DQ31 (io), E8 DDR0_DQ12 (io), E9 DDR0_RESET (out), E11 DDR0_BA2 (out), E12 DDR0_A3 (out), E14 DDR0_ODT0 (out), E15 DDR0_ODT1 (out), E17 DDR0_DM0 (out), E18 DDR0_DQ5 (io), F7 DDR0_DQ29 (io), F8 DDR0_DQ15 (io), F9 DDR0_DM1 (out), F11 DDR0_CSn1 (out), F12 DDR0_A4 (out), F14 DDR0_A12 (out), F15 DDR0_DQ18 (io), F17 DDR0_DQ2 (io), F18 DDR0_DQ3 (io), G8 DDR0_RETLE, G11 NC3, G12 DDR0_ATO, G14 NC1, G15 NC2, G17 DDR0_PZQ, H9 DDR0_VDD1 (power), H11 DDR0_VREFAO (power), H12 DDR0_VREF (power), H14 DDR0_VDDAO (power), H15 DDR0_DTO1, H17 DDR0_DTO0, J11 DDR0_VDD2 (power), J12 DDR0_VDD3 (power), J14 DDR0_VDD4 (power), J15 DDR0_VDD5 (power)
part L pins: AA1 DDR1_DQS0n (out), AA2 DDR1_DQS0 (out), B1 DDR1_DQ24 (io), B2 DDR1_DQ25 (io), C1 DDR1_DQ10 (io), C2 DDR1_DQ30 (io), D1 DDR1_DQS3n (out), D2 DDR1_DQS3 (out), D3 DDR1_DM3 (out), E1 DDR1_DQ9 (io), E2 DDR1_DQ8 (io), E3 DDR1_DQ28 (io), E4 DDR1_DQ26 (io), F1 DDR1_CKE0 (out), F2 DDR1_RESET (out), F3 DDR1_DQ11 (io), F5 DDR1_DQ29 (io), G1 DDR1_DQS1n (out), G2 DDR1_DQS1 (out), G5 DDR1_DM1 (out), G6 DDR1_DQ27 (io), H1 DDR1_CASn (out), H2 DDR1_CSn0 (out), H3 DDR1_CKE1 (out), H4 DDR1_DQ13 (io), H5 DDR1_DQ12 (io), H6 DDR1_DQ31 (io), H7 DDR1_RETLE, J1 DDR1_BA1 (out), J2 DDR1_WEn (out), J3 DDR1_CSn1 (out), J5 DDR1_DQ14 (io), J6 DDR1_DQ15 (io), J8 DDR1_VDD1 (power), K1 DDR1_A2 (out), K2 DDR1_A1 (out), L1 DDR1_CLKn (out), L2 DDR1_CLK (out), L3 DDR1_A0 (out), L4 DDR1_BA0 (out), L5 DDR1_BA2 (out), L6 DDR1_RASn (out), L7 NC6, L8 DDR1_VREFAO (power), L9 DDR1_VDD2 (power), M1 DDR1_A6 (out), M2 DDR1_A5 (out), M3 DDR1_A7 (out), M5 DDR1_A3 (out), M6 DDR1_A4 (out), M7 DDR1_ATO, M8 DDR1_VREF (power), M9 DDR1_VDD3 (power), N1 DDR1_A8 (out), N2 DDR1_A10 (out), P1 DDR1_A9 (out), P2 DDR1_A14 (out), P3 DDR1_A13 (out), P4 DDR1_A11 (out), P5 DDR1_ODT0 (out), P6 DDR1_A12 (out), P7 NC4, P8 DDR1_VDDAO (power), P9 DDR1_VDD4 (power), R1 DDR1_A15 (out), R2 DDR1_ODT1 (out), R3 DDR1_DM2 (out), R5 DDR1_DQ19 (io), R6 DDR1_DQ17 (io), R7 NC5, R8 DDR1_DTO1, R9 DDR1_VDD5 (power), T1 DDR1_DQ18 (io), T2 DDR1_DQ16 (io), U1 DDR1_DQS2n (out), U2 DDR1_DQS2 (out), U3 DDR1_DQ22 (io), U4 DDR1_DQ20 (io), U5 DDR1_DM0 (out), U6 DDR1_DQ3 (io), U7 DDR1_PZQ, U8 DDR1_DTO0, V1 DDR1_DQ21 (io), V2 DDR1_DQ23 (io), V3 DDR1_DQ1 (io), V5 DDR1_DQ6 (io), W1 DDR1_DQ4 (io), W2 DDR1_DQ0 (io), Y1 DDR1_DQ2 (io), Y2 DDR1_DQ5 (io), Y3 DDR1_DQ7 (io)
part M pins: A21 VSS9 (power), AC24 VSS11 (power), C3 VSS1 (power), D6 VSS2 (power), D9 VSS3 (power), D12 VSS4 (power), D15 VSS5 (power), D18 VSS6 (power), E20 VSS7 (power), F4 VSS12 (power), J4 VSS13 (power), J9 VSS14 (power), J17 VSS16 (power), J18 VSS28 (power), K10 VSS18 (power), K11 VSS19 (power), K12 VSS20 (power), K13 VSS21 (power), K14 VSS22 (power), K15 VSS23 (power), K16 VSS24 (power), K17 VSS25 (power), K18 VSS26 (power), K19 VSS27 (power), L10 VSS29 (power), L11 VSS30 (power), L13 VSS31 (power), L14 VSS32 (power), L15 VSS33 (power), M4 VSS34 (power), M10 VSS35 (power), M11 VSS36 (power), M13 VSS37 (power), M14 VSS38 (power), N10 VSS40 (power), N11 VSS41 (power), N13 VSS42 (power), N14 VSS43 (power), N15 VSS44 (power), P10 VSS45 (power), P11 VSS46 (power), P13 VSS47 (power), P14 VSS48 (power), P15 VSS49 (power), P16 VSS50 (power), P17 VSS51 (power), P18 VSS52 (power), R4 VSS53 (power), R10 VSS54 (power), R13 VSS55 (power), R14 VSS61 (power), R15 VSS71 (power), R16 VSS56 (power), R17 VSS57 (power), R18 VSS58 (power), R19 VSS59 (power), T10 VSS60 (power), T13 VSS62 (power), T15 VSS64 (power), T16 VSS65 (power), T17 VSS66 (power), T18 VSS67 (power), T19 VSS68 (power), U9 VSS15 (power), U10 VSS70 (power), U13 VSS72 (power), U24 VSS8 (power), V4 VSS73 (power), V9 VSS69 (power), V10 VSS74 (power), V11 VSS75 (power), V12 VSS76 (power), V13 VSS77 (power), W10 VSS17 (power), W11 VSS78 (power), W12 VSS79 (power), W13 VSS80 (power), W14 VSS81 (power), W15 VSS82 (power), W16 VSS83 (power), W17 VSS84 (power), W18 VSS85 (power), W19 VSS86 (power), Y18 VSS39 (power), Y20 VSS63 (power), Y24 VSS10 (power)
part N pins: AA12 eDP_TP_OUT, AA17 eDP_AVDD_1V8 (power), AC17 eDP_CLK24M_IN, AC18 eDP_EXTR, AG14 eDP_TX0P (out), AG15 eDP_TX1P (out), AG16 eDP_TX2P (out), AG17 eDP_TX3P (out), AG18 eDP_AXUP (out), AH14 eDP_TX0N (out), AH15 eDP_TX1N (out), AH16 eDP_TX2N (out), AH17 eDP_TX3N (out), AH18 eDP_AXUN (out), Y17 eDP_AVDD_1V0 (power)
part O pins: AA18 HDMI_AVDD_1V0 (power), AB17 HDMI_EXTR, AB18 HDMI_HPD_d, AB20 HDMI_AVDD_1V8 (power), AD20 AVSS5 (power), AD23 AVSS6 (power), AD26 AVSS7 (power), AF14 AVSS1 (power), AF15 AVSS2 (power), AF17 AVSS3 (power), AF18 AVSS4 (power), AF26 AVSS8 (power), AG19 HDMI_TXCP (out), AG20 HDMI_TX0P (out), AG21 HDMI_TX1P (out), AG22 HDMI_TX2P (out), AH19 HDMI_TXCN (out), AH20 HDMI_TX0N (out), AH21 HDMI_TX1N (out), AH22 HDMI_TX2N (out)
part P pins: AB6 FLASH0_DQS/EMMC_CLKOUT/GPIO3_C2_d (io), AC4 FLASH0_CSn2/EMMC_CMD/GPIO3_C0_u (io), AC5 FLASH0_CSn0/GPIO3_B6_u (io), AD3 FLASH0_D1/EMMC_D1/GPIO3_A1_u (io), AD4 FLASH0_CSn1/GPIO3_B7_u (io), AE3 FLASH0_D0/EMMC_D0/GPIO3_A0_u (io), AF1 FLASH0_D3/EMMC_D3/GPIO3_A3_u (io), AF2 FLASH0_D4/EMMC_D4/GPIO3_A4_u (io), AF3 FLASH0_D2/EMMC_D2/GPIO3_A2_u (io), AF4 FLASH0_ALE/GPIO3_B3_d (io), AG1 FLASH0_D6/EMMC_D6/GPIO3_A6_u (io), AG2 FLASH0_D7/EMMC_D7/GPIO3_A7_u (io), AG3 FLASH0_D5/EMMC_D5/GPIO3_A5_u (io), AG4 FLASH0_WRN/GPIO3_B5_u (io), AH1 FLASH0_WP/EMMC_PWREN/GPIO3_B1_d (io), AH2 FLASH0_RDY/GPIO3_B0_u (io), AH3 FLASH0_CLE/GPIO3_B4_d (io), Y6 FLASH0_RDN/GPIO3_B2_u (io), Y7 FLASH0_CSn3/EMMC_RSTNOUT/GPIO3_C1_u (io), Y8 FLASH0_VOLTAGE_SEL/GPIO3_C3_d (io), Y9 FLASH0_VDD (power)
part Q pins: AA3 HOST_D6/MAC_RXD0/SDIO1_BKPWR/FLASH1_D6/GPIO3_D6_u (io), AA4 HOST_D7/MAC_RXD1/SDIO1_INTn/FLASH1_D7/GPIO3_D7_u (io), AA5 HOST_D14/MAC_COL/FLASH1_DQS/FLASH1_CSn3/GPIO4_B0_u (io), AA6 HOST_D13/MAC_CRS/SDIO1_CLKOUT/FLASH1_CSn1/GPIO4_A7_u (io), AB1 HOST_D2/MAC_RXD2/SDIO1_D2/FLASH1_D2/GPIO3_D2_u (io), AB2 HOST_D5/MAC_TXD1/SDIO1_WRPRT/FLASH1_D5/GPIO3_D5_u (io), AB5 HOST_D12/MAC_RXCLK/SDIO1_CMD/FLASH1_CSn0/GPIO4_A6_u (io), AC1 HOST_D3/MAC_RXD3/SDIO1_D3/FLASH1_D3/GPIO3_D3_u (io), AC2 HOST_CKOUTN/MAC_RXDV/FLASH0_CSn4/FLASH1_WP/GPIO4_A1_u (io), AC3 HOST_CKOUTP/MAC_MDC/FLASH1_RDY/GPIO4_A0_u (io), AD1 HOST_D4/MAC_TXD0/SDIO1_DET/FLASH1_D4/GPIO3_D4_u (io), AD2 HOST_D10/MAC_TXEN/FLASH0_CSn7/FLASH1_CLE/GPIO4_A4_u (io), AE1 HOST_D8/MAC_RXER/FLASH0_CSn5/FLASH1_RDN/GPIO4_A2_u (io), AE2 HOST_D9/MAC_CLK/FLASH0_CSn6/FLASH1_ALE/GPIO4_A3_u (io), V6 HOST_D1/MAC_TXD3/SDIO1_D1/FLASH1_D1/GPIO3_D1_u (io), V7 HOST_D15/MAC_TXCLK/SDIO1_PWREN/FLASH1_CSn2/GPIO4_B1_u (io), V8 FLASH1_VDD (power), Y4 HOST_D0/MAC_TXD2/SDIO1_D0/FLASH1_D0/GPIO3_D0_u (io), Y5 HOST_D11/MAC_MDIO/FLASH1_WRN/GPIO4_A5_u (io)
part R pins: L12 LOGIC_VDD1 (power), L16 GPU_VDD1 (power), L17 GPU_VDD2 (power), L18 GPU_VDD3 (power), L19 GPU_VDD4 (power), M12 LOGIC_VDD2 (power), M15 GPU_VDD_COM, M16 GPU_VDD5 (power), M17 GPU_VDD6 (power), M18 GPU_VDD7 (power), M19 GPU_VDD8 (power), N12 LOGIC_VDD3 (power), N16 GPU_VDD9 (power), N17 GPU_VDD10 (power), N18 GPU_VDD11 (power), N19 GPU_VDD12 (power), P12 LOGIC_VDD4 (power), R11 LOGIC_VDD8 (power), R12 LOGIC_VDD5 (power), T11 LOGIC_VDD9 (power), T12 LOGIC_VDD6 (power), T14 CPU_VDD_COM, U11 LOGIC_VDD10 (power), U12 LOGIC_VDD7 (power), U14 CPU_VDD1 (power), U15 CPU_VDD2 (power), U16 CPU_VDD3 (power), U17 CPU_VDD4 (power), U18 CPU_VDD5 (power), U19 CPU_VDD6 (power), V14 CPU_VDD7 (power), V15 CPU_VDD8 (power), V16 CPU_VDD9 (power), V17 CPU_VDD10 (power), V18 CPU_VDD11 (power), V19 CPU_VDD12 (power), V20 LCDC_VDD (power)
part S pins: A24 NC11 (in), A25 NC9 (out), AA14 NC28 (power), AA15 NC18 (power), AB14 NC14 (out), AB15 NC13 (out), AC14 NC16 (in), AC15 NC15 (in), AD14 NC20 (in), AD15 NC24 (out), AD17 NC22 (in), AD18 NC26 (out), AE14 NC19 (in), AE15 NC23 (out), AE17 NC21 (in), AE18 NC25 (out), B24 NC12 (in), B25 NC10 (out), G9 NC7, J7 NC8, Y14 NC27 (power), Y15 NC17 (power)
part T pins: P21 RECOVER/ADC_IN1 (in), P23 ADC_IN2 (in), P24 ADC_IN0 (in), R20 ADC_AVDD_1V8 (power)
part U pins: A27 HSIC_DATA, B27 HSIC_STROBE, H20 HSIC_AVDD_1V2 (power)
part V pins: AC22 MIPI_TX_AVDD_1V8 (power), AC27 MIPI_TX_D3P (out), AC28 MIPI_TX_D3N (out), AD27 MIPI_TX_D2P (out), AD28 MIPI_TX_D2N (out), AE26 MIPI_TX_REXT, AE27 MIPI_TX_CLKP (out), AE28 MIPI_TX_CLKN (out), AF27 MIPI_TX_D1P (out), AF28 MIPI_TX_D1N (out), AG27 MIPI_TX_D0P (out), AG28 MIPI_TX_D0N (out)
part W pins: AC20 MIPI_RX_AVDD_1V8 (power), AD21 MIPI_RX_REXT, AG23 MIPI_RX_D0P (in), AG24 MIPI_RX_D1P (in), AG25 MIPI_RX_CLKP (in), AG26 MIPI_RX_D2P (in), AH23 MIPI_RX_D0N (in), AH24 MIPI_RX_D1N (in), AH25 MIPI_RX_CLKN (in), AH26 MIPI_RX_D2N (in), AH27 MIPI_RX_D3N (in), AH28 MIPI_RX_D3P (in)
part X pins: AC21 MIPI_TX/RX_AVDD_1V8 (power), AD22 MIPI_TX/RX_REXT, AD25 MIPI_TX/RX_D3N (io), AE20 MIPI_TX/RX_D0P (io), AE21 MIPI_TX/RX_D1P (io), AE23 MIPI_TX/RX_CLKP (io), AE24 MIPI_TX/RX_D2P (io), AF20 MIPI_TX/RX_D0N (io), AF21 MIPI_TX/RX_D1N (io), AF23 MIPI_TX/RX_CLKN (io), AF24 MIPI_TX/RX_D2N (io), AF25 MIPI_TX/RX_D3P (io)
part A text: LCDC domain; LVDS domain

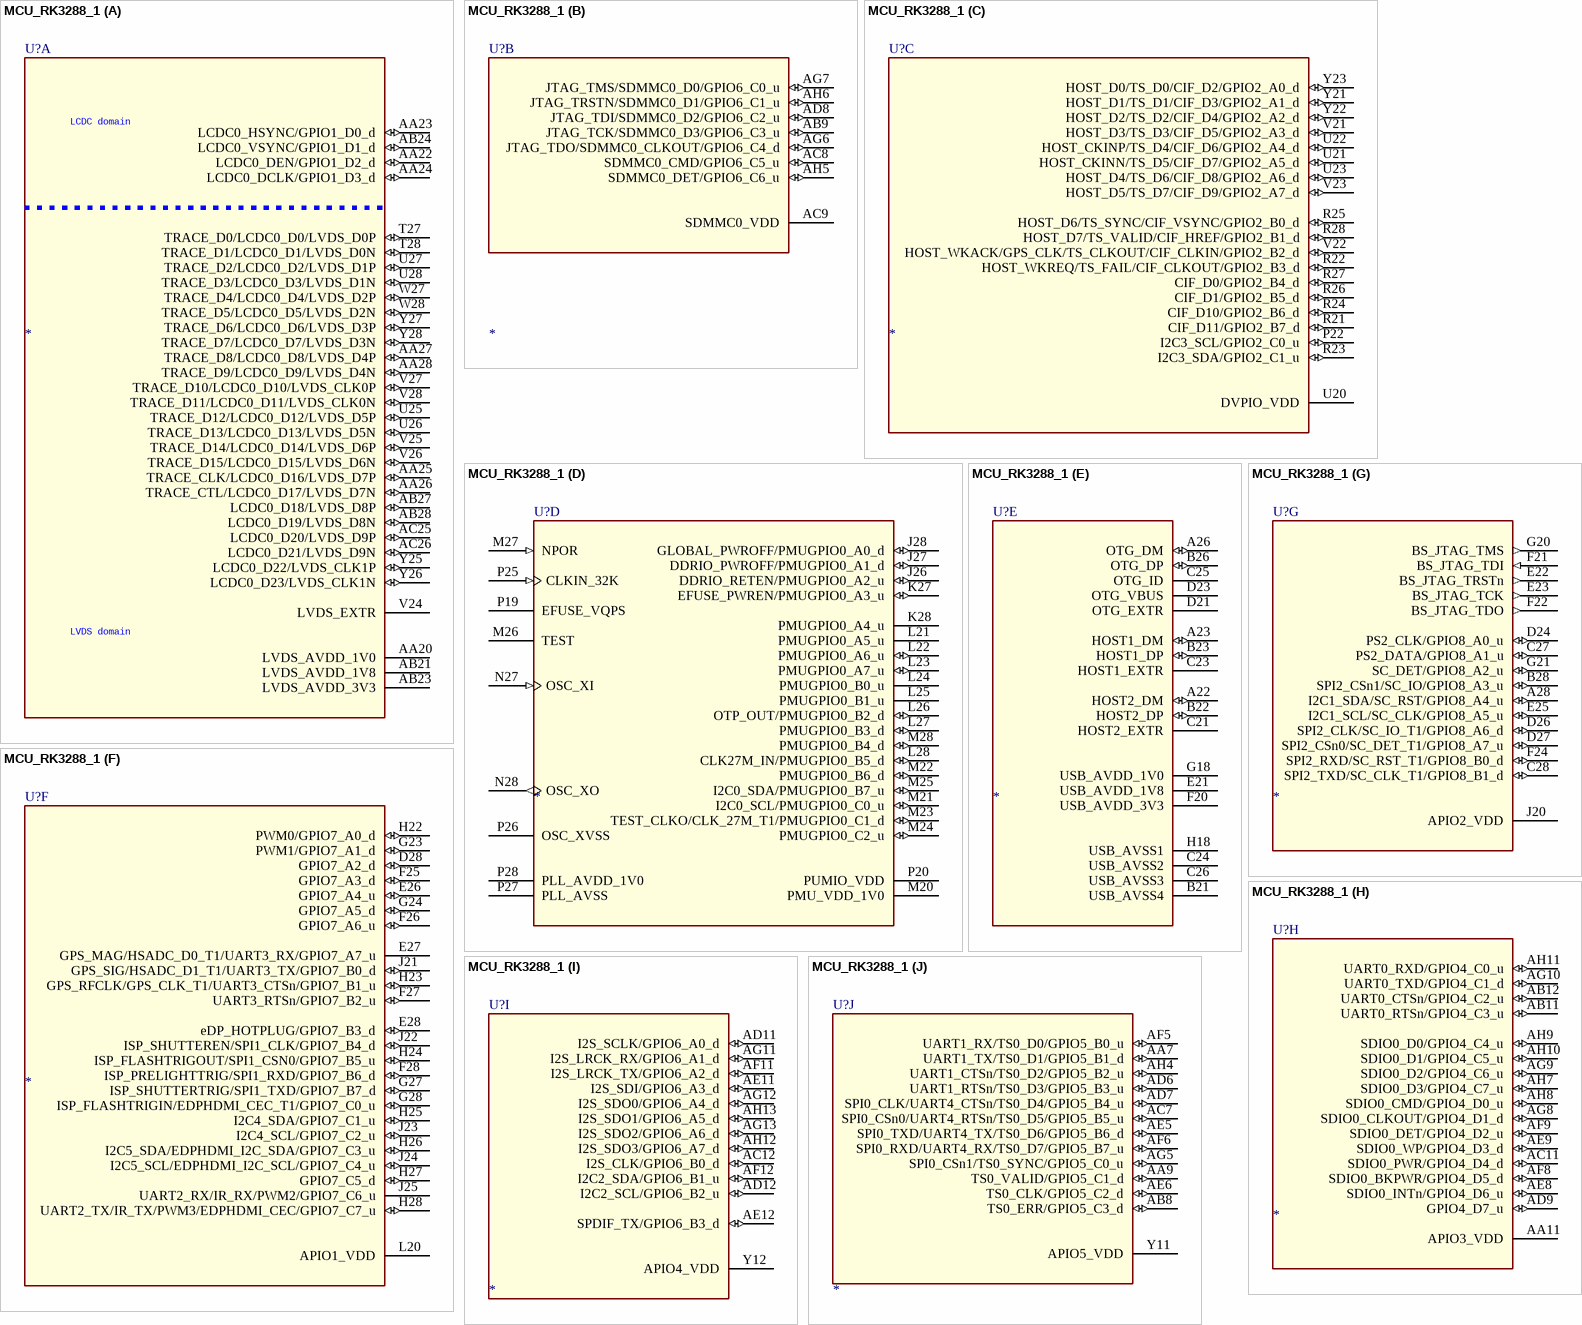
[diagram p19: symbol MCU_RK3288_1]

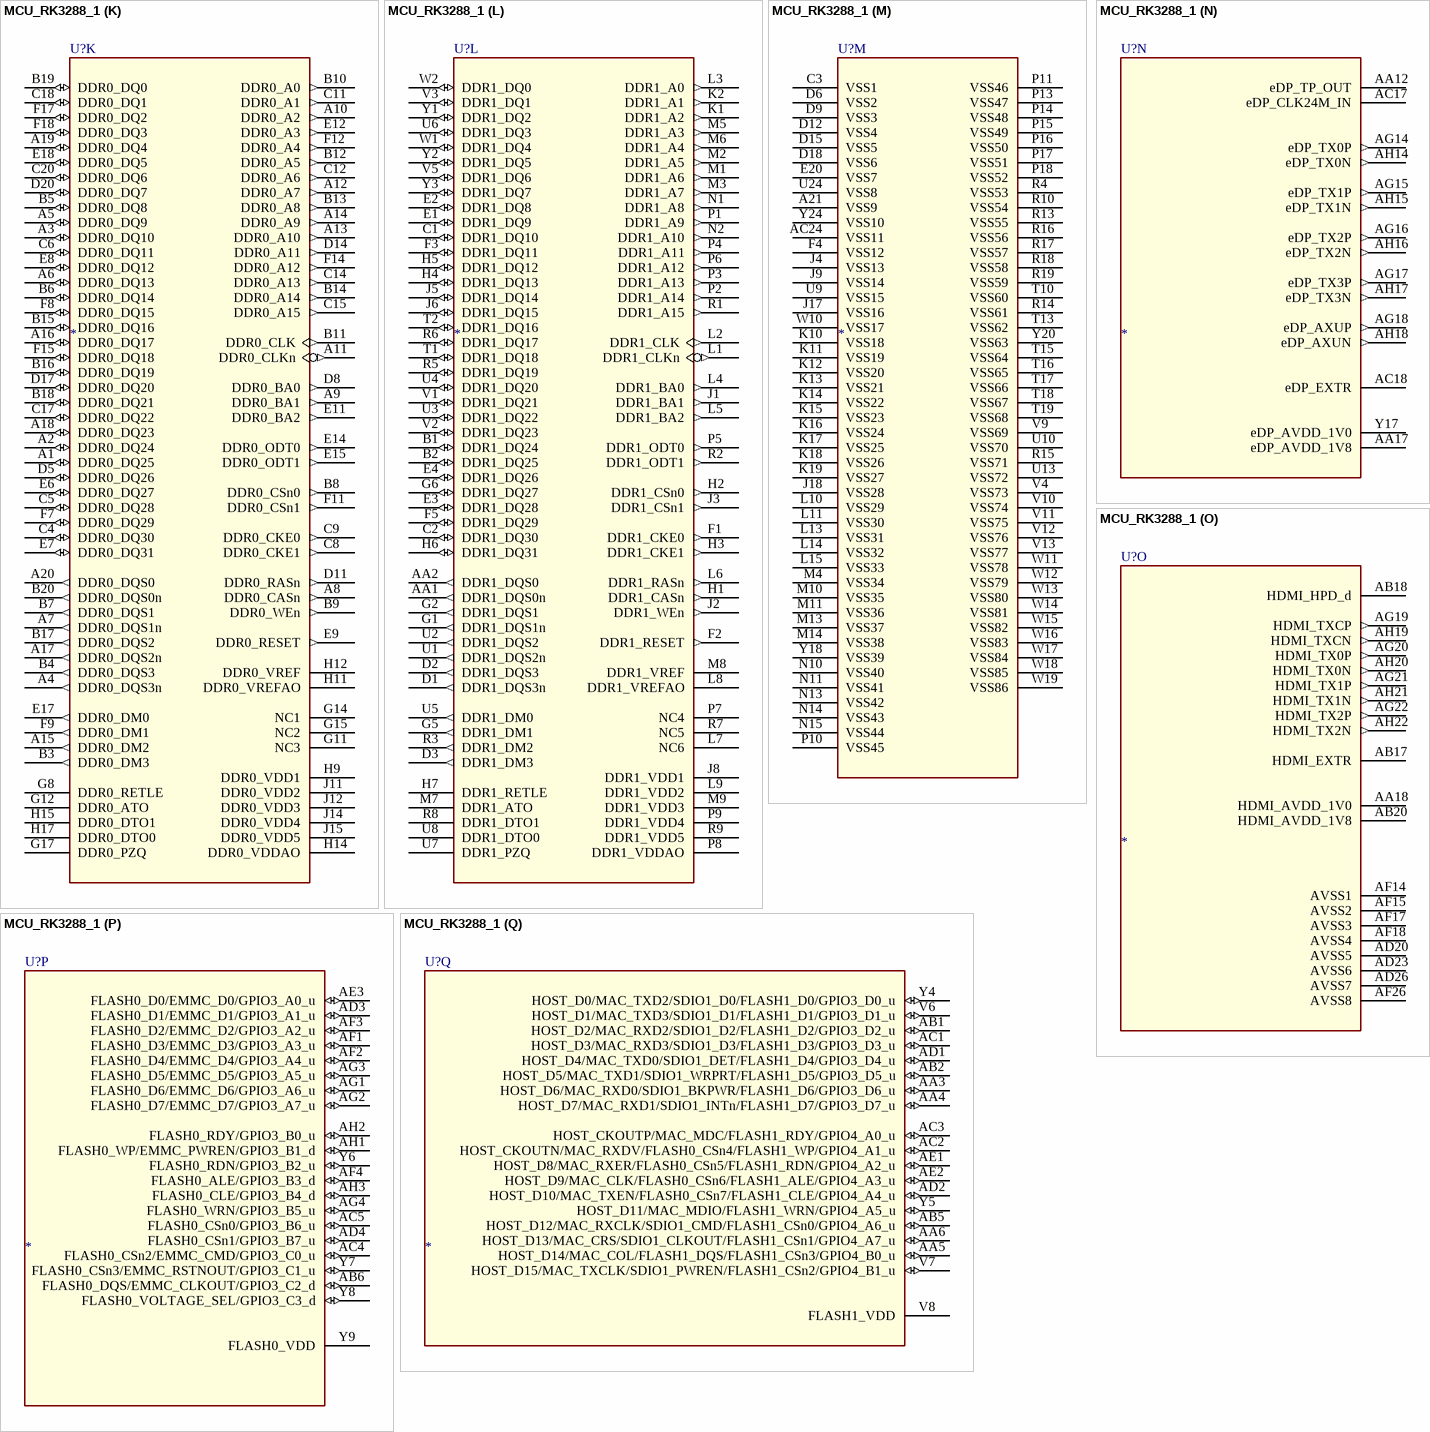
[diagram p20: symbol MCU_RK3288_1]

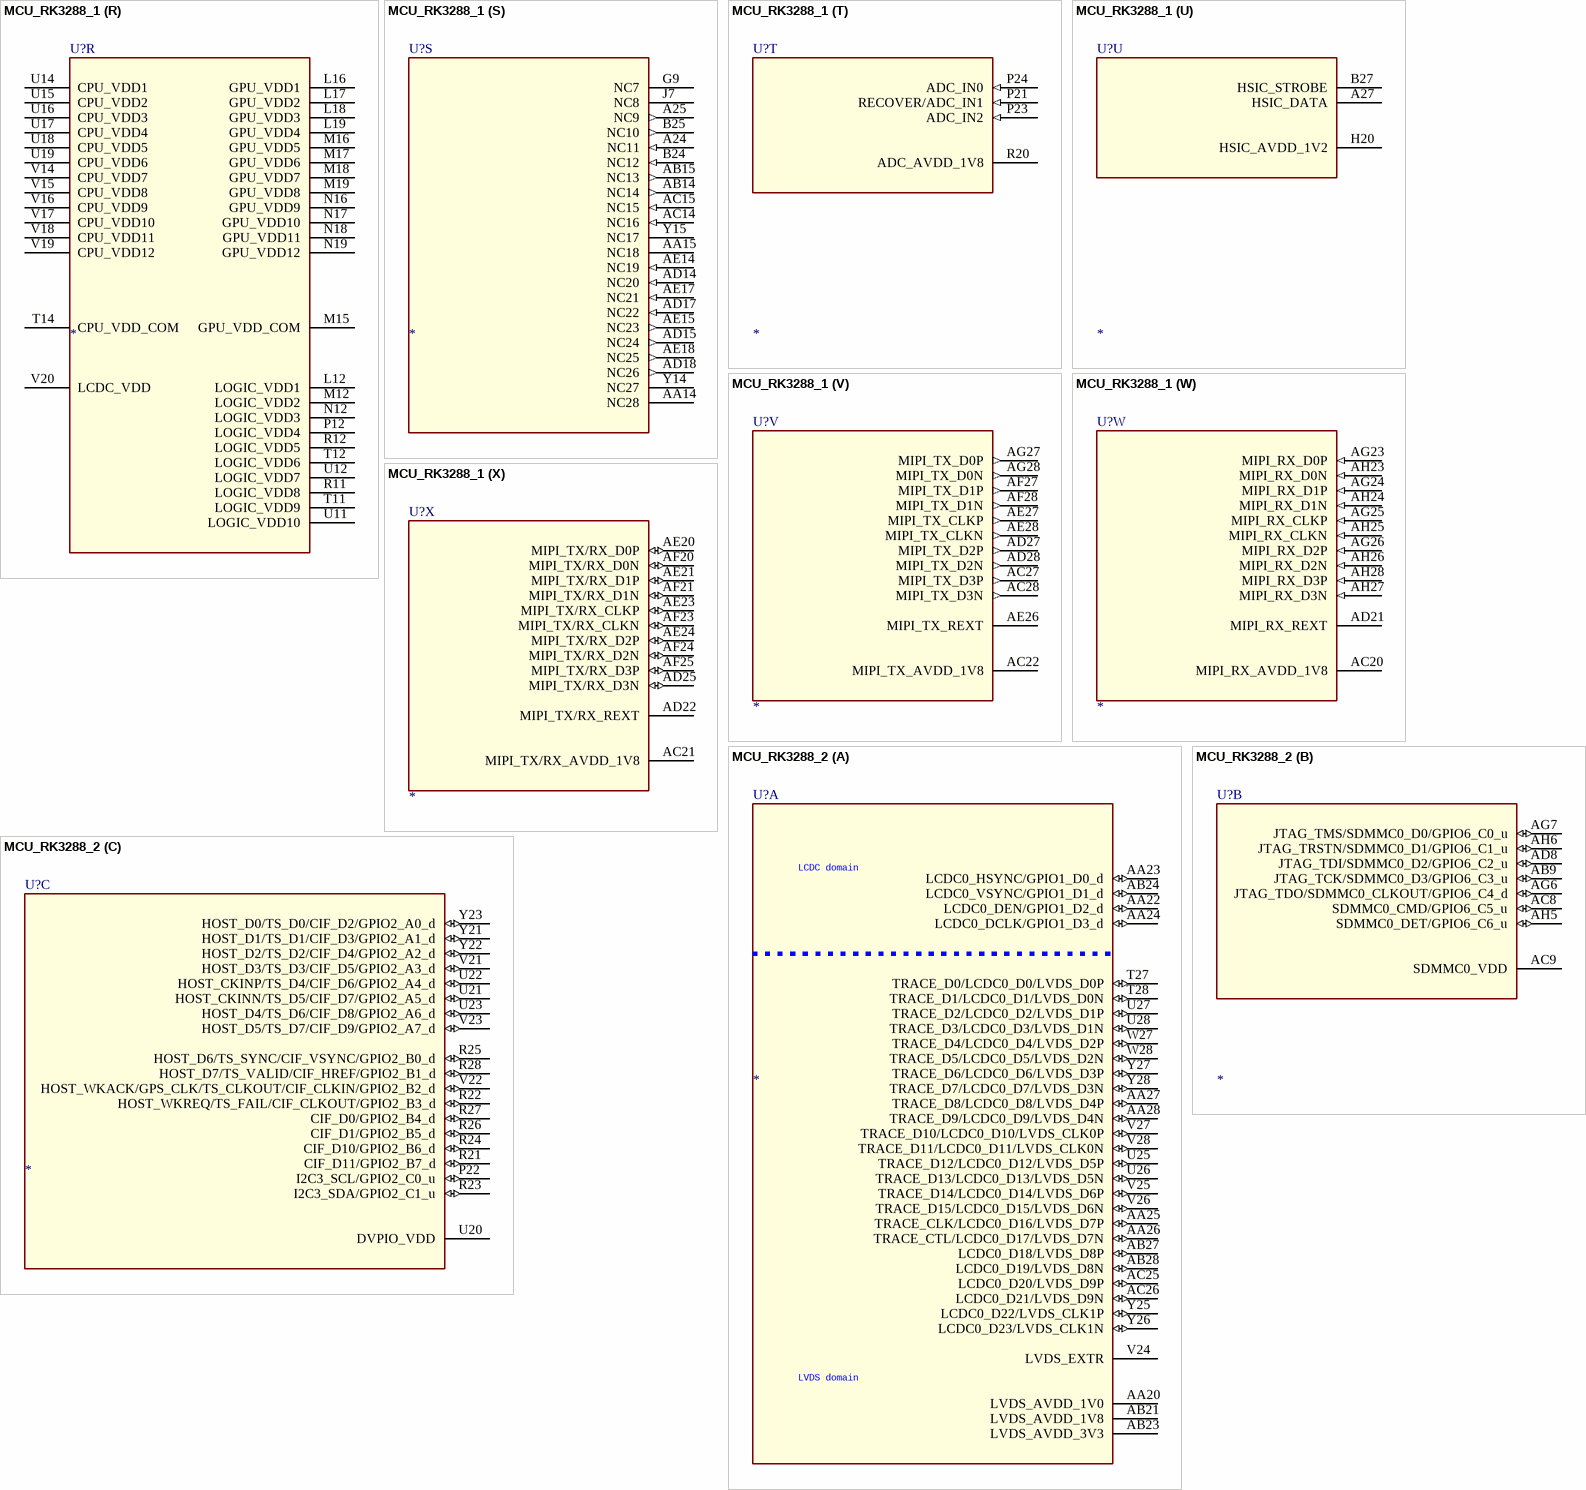
[diagram p21: symbols MCU_RK3288_1 to MCU_RK3288_2]

## MCU_RK3288_1
designator U?
footprint BGA453-19X19
part A pins: AA20 LVDS_AVDD_1V0 (power), AA22 LCDC0_DEN/GPIO1_D2_d (io), AA23 LCDC0_HSYNC/GPIO1_D0_d (io), AA24 LCDC0_DCLK/GPIO1_D3_d (io), AA25 TRACE_CLK/LCDC0_D16/LVDS_D7P (io), AA26 TRACE_CTL/LCDC0_D17/LVDS_D7N (io), AA27 TRACE_D8/LCDC0_D8/LVDS_D4P (io), AA28 TRACE_D9/LCDC0_D9/LVDS_D4N (io), AB21 LVDS_AVDD_1V8 (power), AB23 LVDS_AVDD_3V3 (power), AB24 LCDC0_VSYNC/GPIO1_D1_d (io), AB27 LCDC0_D18/LVDS_D8P (io), AB28 LCDC0_D19/LVDS_D8N (io), AC25 LCDC0_D20/LVDS_D9P (io), AC26 LCDC0_D21/LVDS_D9N (io), T27 TRACE_D0/LCDC0_D0/LVDS_D0P (io), T28 TRACE_D1/LCDC0_D1/LVDS_D0N (io), U25 TRACE_D12/LCDC0_D12/LVDS_D5P (io), U26 TRACE_D13/LCDC0_D13/LVDS_D5N (io), U27 TRACE_D2/LCDC0_D2/LVDS_D1P (io), U28 TRACE_D3/LCDC0_D3/LVDS_D1N (io), V24 LVDS_EXTR, V25 TRACE_D14/LCDC0_D14/LVDS_D6P (io), V26 TRACE_D15/LCDC0_D15/LVDS_D6N (io), V27 TRACE_D10/LCDC0_D10/LVDS_CLK0P (io), V28 TRACE_D11/LCDC0_D11/LVDS_CLK0N (io), W27 TRACE_D4/LCDC0_D4/LVDS_D2P (io), W28 TRACE_D5/LCDC0_D5/LVDS_D2N (io), Y25 LCDC0_D22/LVDS_CLK1P (io), Y26 LCDC0_D23/LVDS_CLK1N (io), Y27 TRACE_D6/LCDC0_D6/LVDS_D3P (io), Y28 TRACE_D7/LCDC0_D7/LVDS_D3N (io)
part B pins: AB9 JTAG_TCK/SDMMC0_D3/GPIO6_C3_u (io), AC8 SDMMC0_CMD/GPIO6_C5_u (io), AC9 SDMMC0_VDD (power), AD8 JTAG_TDI/SDMMC0_D2/GPIO6_C2_u (io), AG6 JTAG_TDO/SDMMC0_CLKOUT/GPIO6_C4_d (io), AG7 JTAG_TMS/SDMMC0_D0/GPIO6_C0_u (io), AH5 SDMMC0_DET/GPIO6_C6_u (io), AH6 JTAG_TRSTN/SDMMC0_D1/GPIO6_C1_u (io)
part C pins: P22 I2C3_SCL/GPIO2_C0_u (io), R21 CIF_D11/GPIO2_B7_d (io), R22 HOST_WKREQ/TS_FAIL/CIF_CLKOUT/GPIO2_B3_d (io), R23 I2C3_SDA/GPIO2_C1_u (io), R24 CIF_D10/GPIO2_B6_d (io), R25 HOST_D6/TS_SYNC/CIF_VSYNC/GPIO2_B0_d (io), R26 CIF_D1/GPIO2_B5_d (io), R27 CIF_D0/GPIO2_B4_d (io), R28 HOST_D7/TS_VALID/CIF_HREF/GPIO2_B1_d (io), U20 DVPIO_VDD (power), U21 HOST_CKINN/TS_D5/CIF_D7/GPIO2_A5_d (io), U22 HOST_CKINP/TS_D4/CIF_D6/GPIO2_A4_d (io), U23 HOST_D4/TS_D6/CIF_D8/GPIO2_A6_d (io), V21 HOST_D3/TS_D3/CIF_D5/GPIO2_A3_d (io), V22 HOST_WKACK/GPS_CLK/TS_CLKOUT/CIF_CLKIN/GPIO2_B2_d (io), V23 HOST_D5/TS_D7/CIF_D9/GPIO2_A7_d (io), Y21 HOST_D1/TS_D1/CIF_D3/GPIO2_A1_d (io), Y22 HOST_D2/TS_D2/CIF_D4/GPIO2_A2_d (io), Y23 HOST_D0/TS_D0/CIF_D2/GPIO2_A0_d (io)
part D pins: J26 DDRIO_RETEN/PMUGPIO0_A2_u (io), J27 DDRIO_PWROFF/PMUGPIO0_A1_d (io), J28 GLOBAL_PWROFF/PMUGPIO0_A0_d (io), K27 EFUSE_PWREN/PMUGPIO0_A3_u (io), K28 PMUGPIO0_A4_u, L21 PMUGPIO0_A5_u, L22 PMUGPIO0_A6_u (io), L23 PMUGPIO0_A7_u (io), L24 PMUGPIO0_B0_u, L25 PMUGPIO0_B1_u, L26 OTP_OUT/PMUGPIO0_B2_d (io), L27 PMUGPIO0_B3_d (io), L28 CLK27M_IN/PMUGPIO0_B5_d (io), M20 PMU_VDD_1V0 (power), M21 I2C0_SCL/PMUGPIO0_C0_u (io), M22 PMUGPIO0_B6_d (io), M23 TEST_CLKO/CLK_27M_T1/PMUGPIO0_C1_d (io), M24 PMUGPIO0_C2_u (io), M25 I2C0_SDA/PMUGPIO0_B7_u (io), M26 TEST, M27 NPOR (in), M28 PMUGPIO0_B4_d (io), N27 OSC_XI (in), N28 OSC_XO (out), P19 EFUSE_VQPS (power), P20 PUMIO_VDD (power), P25 CLKIN_32K (in), P26 OSC_XVSS (power), P27 PLL_AVSS (power), P28 PLL_AVDD_1V0 (power)
part E pins: A22 HOST2_DM (io), A23 HOST1_DM (io), A26 OTG_DM (io), B21 USB_AVSS4 (power), B22 HOST2_DP (io), B23 HOST1_DP (io), B26 OTG_DP (io), C21 HOST2_EXTR, C23 HOST1_EXTR, C24 USB_AVSS2 (power), C25 OTG_ID, C26 USB_AVSS3 (power), D21 OTG_EXTR, D23 OTG_VBUS, E21 USB_AVDD_1V8 (power), F20 USB_AVDD_3V3 (power), G18 USB_AVDD_1V0 (power), H18 USB_AVSS1 (power)
part F pins: D28 GPIO7_A2_d (io), E26 GPIO7_A4_u (io), E27 GPS_MAG/HSADC_D0_T1/UART3_RX/GPIO7_A7_u, E28 eDP_HOTPLUG/GPIO7_B3_d (io), F25 GPIO7_A3_d (io), F26 GPIO7_A6_u (io), F27 UART3_RTSn/GPIO7_B2_u (io), F28 ISP_PRELIGHTTRIG/SPI1_RXD/GPIO7_B6_d (io), G23 PWM1/GPIO7_A1_d (io), G24 GPIO7_A5_d (io), G27 ISP_SHUTTERTRIG/SPI1_TXD/GPIO7_B7_d (io), G28 ISP_FLASHTRIGIN/EDPHDMI_CEC_T1/GPIO7_C0_u (io), H22 PWM0/GPIO7_A0_d (io), H23 GPS_RFCLK/GPS_CLK_T1/UART3_CTSn/GPIO7_B1_u (io), H24 ISP_FLASHTRIGOUT/SPI1_CSN0/GPIO7_B5_u (io), H25 I2C4_SDA/GPIO7_C1_u (io), H26 I2C5_SDA/EDPHDMI_I2C_SDA/GPIO7_C3_u (io), H27 GPIO7_C5_d (io), H28 UART2_TX/IR_TX/PWM3/EDPHDMI_CEC/GPIO7_C7_u (io), J21 GPS_SIG/HSADC_D1_T1/UART3_TX/GPIO7_B0_d (io), J22 ISP_SHUTTEREN/SPI1_CLK/GPIO7_B4_d (io), J23 I2C4_SCL/GPIO7_C2_u (io), J24 I2C5_SCL/EDPHDMI_I2C_SCL/GPIO7_C4_u (io), J25 UART2_RX/IR_RX/PWM2/GPIO7_C6_u, L20 APIO1_VDD (power)
part G pins: A28 I2C1_SDA/SC_RST/GPIO8_A4_u (io), B28 SPI2_CSn1/SC_IO/GPIO8_A3_u (io), C27 PS2_DATA/GPIO8_A1_u (io), C28 SPI2_TXD/SC_CLK_T1/GPIO8_B1_d (io), D24 PS2_CLK/GPIO8_A0_u (io), D26 SPI2_CLK/SC_IO_T1/GPIO8_A6_d (io), D27 SPI2_CSn0/SC_DET_T1/GPIO8_A7_u (io), E22 BS_JTAG_TRSTn (out), E23 BS_JTAG_TCK (out), E25 I2C1_SCL/SC_CLK/GPIO8_A5_u (io), F21 BS_JTAG_TDI (in), F22 BS_JTAG_TDO (out), F24 SPI2_RXD/SC_RST_T1/GPIO8_B0_d (io), G20 BS_JTAG_TMS (out), G21 SC_DET/GPIO8_A2_u (io), J20 APIO2_VDD (power)
part H pins: AA11 APIO3_VDD (power), AB11 UART0_RTSn/GPIO4_C3_u (io), AB12 UART0_CTSn/GPIO4_C2_u (io), AC11 SDIO0_PWR/GPIO4_D4_d (io), AD9 GPIO4_D7_u (io), AE8 SDIO0_INTn/GPIO4_D6_u (io), AE9 SDIO0_WP/GPIO4_D3_d (io), AF8 SDIO0_BKPWR/GPIO4_D5_d (io), AF9 SDIO0_DET/GPIO4_D2_u (io), AG8 SDIO0_CLKOUT/GPIO4_D1_d (io), AG9 SDIO0_D2/GPIO4_C6_u (io), AG10 UART0_TXD/GPIO4_C1_d (io), AH7 SDIO0_D3/GPIO4_C7_u (io), AH8 SDIO0_CMD/GPIO4_D0_u (io), AH9 SDIO0_D0/GPIO4_C4_u (io), AH10 SDIO0_D1/GPIO4_C5_u (io), AH11 UART0_RXD/GPIO4_C0_u (io)
part I pins: AC12 I2S_CLK/GPIO6_B0_d (io), AD11 I2S_SCLK/GPIO6_A0_d (io), AD12 I2C2_SCL/GPIO6_B2_u (io), AE11 I2S_SDI/GPIO6_A3_d (io), AE12 SPDIF_TX/GPIO6_B3_d (io), AF11 I2S_LRCK_TX/GPIO6_A2_d (io), AF12 I2C2_SDA/GPIO6_B1_u (io), AG11 I2S_LRCK_RX/GPIO6_A1_d (io), AG12 I2S_SDO0/GPIO6_A4_d (io), AG13 I2S_SDO2/GPIO6_A6_d (io), AH12 I2S_SDO3/GPIO6_A7_d (io), AH13 I2S_SDO1/GPIO6_A5_d (io), Y12 APIO4_VDD (power)
part J pins: AA7 UART1_TX/TS0_D1/GPIO5_B1_d (io), AA9 TS0_VALID/GPIO5_C1_d (io), AB8 TS0_ERR/GPIO5_C3_d (io), AC7 SPI0_CSn0/UART4_RTSn/TS0_D5/GPIO5_B5_u (io), AD6 UART1_RTSn/TS0_D3/GPIO5_B3_u (io), AD7 SPI0_CLK/UART4_CTSn/TS0_D4/GPIO5_B4_u (io), AE5 SPI0_TXD/UART4_TX/TS0_D6/GPIO5_B6_d (io), AE6 TS0_CLK/GPIO5_C2_d (io), AF5 UART1_RX/TS0_D0/GPIO5_B0_u (io), AF6 SPI0_RXD/UART4_RX/TS0_D7/GPIO5_B7_u (io), AG5 SPI0_CSn1/TS0_SYNC/GPIO5_C0_u (io), AH4 UART1_CTSn/TS0_D2/GPIO5_B2_u (io), Y11 APIO5_VDD (power)
part K pins: A1 DDR0_DQ25 (io), A2 DDR0_DQ24 (io), A3 DDR0_DQ10 (io), A4 DDR0_DQS3n (out), A5 DDR0_DQ9 (io), A6 DDR0_DQ13 (io), A7 DDR0_DQS1n (out), A8 DDR0_CASn (out), A9 DDR0_BA1 (out), A10 DDR0_A2 (out), A11 DDR0_CLKn (out), A12 DDR0_A7 (out), A13 DDR0_A10 (out), A14 DDR0_A9 (out), A15 DDR0_DM2 (out), A16 DDR0_DQ17 (io), A17 DDR0_DQS2n (out), A18 DDR0_DQ23 (io), A19 DDR0_DQ4 (io), A20 DDR0_DQS0 (out), B3 DDR0_DM3 (out), B4 DDR0_DQS3 (out), B5 DDR0_DQ8 (io), B6 DDR0_DQ14 (io), B7 DDR0_DQS1 (out), B8 DDR0_CSn0 (out), B9 DDR0_WEn (out), B10 DDR0_A0 (out), B11 DDR0_CLK (out), B12 DDR0_A5 (out), B13 DDR0_A8 (out), B14 DDR0_A14 (out), B15 DDR0_DQ16 (io), B16 DDR0_DQ19 (io), B17 DDR0_DQS2 (out), B18 DDR0_DQ21 (io), B19 DDR0_DQ0 (io), B20 DDR0_DQS0n (out), C4 DDR0_DQ30 (io), C5 DDR0_DQ28 (io), C6 DDR0_DQ11 (io), C8 DDR0_CKE1 (out), C9 DDR0_CKE0 (out), C11 DDR0_A1 (out), C12 DDR0_A6 (out), C14 DDR0_A13 (out), C15 DDR0_A15 (out), C17 DDR0_DQ22 (io), C18 DDR0_DQ1 (io), C20 DDR0_DQ6 (io), D5 DDR0_DQ26 (io), D8 DDR0_BA0 (out), D11 DDR0_RASn (out), D14 DDR0_A11 (out), D17 DDR0_DQ20 (io), D20 DDR0_DQ7 (io), E6 DDR0_DQ27 (io), E7 DDR0_DQ31 (io), E8 DDR0_DQ12 (io), E9 DDR0_RESET (out), E11 DDR0_BA2 (out), E12 DDR0_A3 (out), E14 DDR0_ODT0 (out), E15 DDR0_ODT1 (out), E17 DDR0_DM0 (out), E18 DDR0_DQ5 (io), F7 DDR0_DQ29 (io), F8 DDR0_DQ15 (io), F9 DDR0_DM1 (out), F11 DDR0_CSn1 (out), F12 DDR0_A4 (out), F14 DDR0_A12 (out), F15 DDR0_DQ18 (io), F17 DDR0_DQ2 (io), F18 DDR0_DQ3 (io), G8 DDR0_RETLE, G11 NC3, G12 DDR0_ATO, G14 NC1, G15 NC2, G17 DDR0_PZQ, H9 DDR0_VDD1 (power), H11 DDR0_VREFAO (power), H12 DDR0_VREF (power), H14 DDR0_VDDAO (power), H15 DDR0_DTO1, H17 DDR0_DTO0, J11 DDR0_VDD2 (power), J12 DDR0_VDD3 (power), J14 DDR0_VDD4 (power), J15 DDR0_VDD5 (power)
part L pins: AA1 DDR1_DQS0n (out), AA2 DDR1_DQS0 (out), B1 DDR1_DQ24 (io), B2 DDR1_DQ25 (io), C1 DDR1_DQ10 (io), C2 DDR1_DQ30 (io), D1 DDR1_DQS3n (out), D2 DDR1_DQS3 (out), D3 DDR1_DM3 (out), E1 DDR1_DQ9 (io), E2 DDR1_DQ8 (io), E3 DDR1_DQ28 (io), E4 DDR1_DQ26 (io), F1 DDR1_CKE0 (out), F2 DDR1_RESET (out), F3 DDR1_DQ11 (io), F5 DDR1_DQ29 (io), G1 DDR1_DQS1n (out), G2 DDR1_DQS1 (out), G5 DDR1_DM1 (out), G6 DDR1_DQ27 (io), H1 DDR1_CASn (out), H2 DDR1_CSn0 (out), H3 DDR1_CKE1 (out), H4 DDR1_DQ13 (io), H5 DDR1_DQ12 (io), H6 DDR1_DQ31 (io), H7 DDR1_RETLE, J1 DDR1_BA1 (out), J2 DDR1_WEn (out), J3 DDR1_CSn1 (out), J5 DDR1_DQ14 (io), J6 DDR1_DQ15 (io), J8 DDR1_VDD1 (power), K1 DDR1_A2 (out), K2 DDR1_A1 (out), L1 DDR1_CLKn (out), L2 DDR1_CLK (out), L3 DDR1_A0 (out), L4 DDR1_BA0 (out), L5 DDR1_BA2 (out), L6 DDR1_RASn (out), L7 NC6, L8 DDR1_VREFAO (power), L9 DDR1_VDD2 (power), M1 DDR1_A6 (out), M2 DDR1_A5 (out), M3 DDR1_A7 (out), M5 DDR1_A3 (out), M6 DDR1_A4 (out), M7 DDR1_ATO, M8 DDR1_VREF (power), M9 DDR1_VDD3 (power), N1 DDR1_A8 (out), N2 DDR1_A10 (out), P1 DDR1_A9 (out), P2 DDR1_A14 (out), P3 DDR1_A13 (out), P4 DDR1_A11 (out), P5 DDR1_ODT0 (out), P6 DDR1_A12 (out), P7 NC4, P8 DDR1_VDDAO (power), P9 DDR1_VDD4 (power), R1 DDR1_A15 (out), R2 DDR1_ODT1 (out), R3 DDR1_DM2 (out), R5 DDR1_DQ19 (io), R6 DDR1_DQ17 (io), R7 NC5, R8 DDR1_DTO1, R9 DDR1_VDD5 (power), T1 DDR1_DQ18 (io), T2 DDR1_DQ16 (io), U1 DDR1_DQS2n (out), U2 DDR1_DQS2 (out), U3 DDR1_DQ22 (io), U4 DDR1_DQ20 (io), U5 DDR1_DM0 (out), U6 DDR1_DQ3 (io), U7 DDR1_PZQ, U8 DDR1_DTO0, V1 DDR1_DQ21 (io), V2 DDR1_DQ23 (io), V3 DDR1_DQ1 (io), V5 DDR1_DQ6 (io), W1 DDR1_DQ4 (io), W2 DDR1_DQ0 (io), Y1 DDR1_DQ2 (io), Y2 DDR1_DQ5 (io), Y3 DDR1_DQ7 (io)
part M pins: A21 VSS9 (power), AC24 VSS11 (power), C3 VSS1 (power), D6 VSS2 (power), D9 VSS3 (power), D12 VSS4 (power), D15 VSS5 (power), D18 VSS6 (power), E20 VSS7 (power), F4 VSS12 (power), J4 VSS13 (power), J9 VSS14 (power), J17 VSS16 (power), J18 VSS28 (power), K10 VSS18 (power), K11 VSS19 (power), K12 VSS20 (power), K13 VSS21 (power), K14 VSS22 (power), K15 VSS23 (power), K16 VSS24 (power), K17 VSS25 (power), K18 VSS26 (power), K19 VSS27 (power), L10 VSS29 (power), L11 VSS30 (power), L13 VSS31 (power), L14 VSS32 (power), L15 VSS33 (power), M4 VSS34 (power), M10 VSS35 (power), M11 VSS36 (power), M13 VSS37 (power), M14 VSS38 (power), N10 VSS40 (power), N11 VSS41 (power), N13 VSS42 (power), N14 VSS43 (power), N15 VSS44 (power), P10 VSS45 (power), P11 VSS46 (power), P13 VSS47 (power), P14 VSS48 (power), P15 VSS49 (power), P16 VSS50 (power), P17 VSS51 (power), P18 VSS52 (power), R4 VSS53 (power), R10 VSS54 (power), R13 VSS55 (power), R14 VSS61 (power), R15 VSS71 (power), R16 VSS56 (power), R17 VSS57 (power), R18 VSS58 (power), R19 VSS59 (power), T10 VSS60 (power), T13 VSS62 (power), T15 VSS64 (power), T16 VSS65 (power), T17 VSS66 (power), T18 VSS67 (power), T19 VSS68 (power), U9 VSS15 (power), U10 VSS70 (power), U13 VSS72 (power), U24 VSS8 (power), V4 VSS73 (power), V9 VSS69 (power), V10 VSS74 (power), V11 VSS75 (power), V12 VSS76 (power), V13 VSS77 (power), W10 VSS17 (power), W11 VSS78 (power), W12 VSS79 (power), W13 VSS80 (power), W14 VSS81 (power), W15 VSS82 (power), W16 VSS83 (power), W17 VSS84 (power), W18 VSS85 (power), W19 VSS86 (power), Y18 VSS39 (power), Y20 VSS63 (power), Y24 VSS10 (power)
part N pins: AA12 eDP_TP_OUT, AA17 eDP_AVDD_1V8 (power), AC17 eDP_CLK24M_IN, AC18 eDP_EXTR, AG14 eDP_TX0P (out), AG15 eDP_TX1P (out), AG16 eDP_TX2P (out), AG17 eDP_TX3P (out), AG18 eDP_AXUP (out), AH14 eDP_TX0N (out), AH15 eDP_TX1N (out), AH16 eDP_TX2N (out), AH17 eDP_TX3N (out), AH18 eDP_AXUN (out), Y17 eDP_AVDD_1V0 (power)
part O pins: AA18 HDMI_AVDD_1V0 (power), AB17 HDMI_EXTR, AB18 HDMI_HPD_d, AB20 HDMI_AVDD_1V8 (power), AD20 AVSS5 (power), AD23 AVSS6 (power), AD26 AVSS7 (power), AF14 AVSS1 (power), AF15 AVSS2 (power), AF17 AVSS3 (power), AF18 AVSS4 (power), AF26 AVSS8 (power), AG19 HDMI_TXCP (out), AG20 HDMI_TX0P (out), AG21 HDMI_TX1P (out), AG22 HDMI_TX2P (out), AH19 HDMI_TXCN (out), AH20 HDMI_TX0N (out), AH21 HDMI_TX1N (out), AH22 HDMI_TX2N (out)
part P pins: AB6 FLASH0_DQS/EMMC_CLKOUT/GPIO3_C2_d (io), AC4 FLASH0_CSn2/EMMC_CMD/GPIO3_C0_u (io), AC5 FLASH0_CSn0/GPIO3_B6_u (io), AD3 FLASH0_D1/EMMC_D1/GPIO3_A1_u (io), AD4 FLASH0_CSn1/GPIO3_B7_u (io), AE3 FLASH0_D0/EMMC_D0/GPIO3_A0_u (io), AF1 FLASH0_D3/EMMC_D3/GPIO3_A3_u (io), AF2 FLASH0_D4/EMMC_D4/GPIO3_A4_u (io), AF3 FLASH0_D2/EMMC_D2/GPIO3_A2_u (io), AF4 FLASH0_ALE/GPIO3_B3_d (io), AG1 FLASH0_D6/EMMC_D6/GPIO3_A6_u (io), AG2 FLASH0_D7/EMMC_D7/GPIO3_A7_u (io), AG3 FLASH0_D5/EMMC_D5/GPIO3_A5_u (io), AG4 FLASH0_WRN/GPIO3_B5_u (io), AH1 FLASH0_WP/EMMC_PWREN/GPIO3_B1_d (io), AH2 FLASH0_RDY/GPIO3_B0_u (io), AH3 FLASH0_CLE/GPIO3_B4_d (io), Y6 FLASH0_RDN/GPIO3_B2_u (io), Y7 FLASH0_CSn3/EMMC_RSTNOUT/GPIO3_C1_u (io), Y8 FLASH0_VOLTAGE_SEL/GPIO3_C3_d (io), Y9 FLASH0_VDD (power)
part Q pins: AA3 HOST_D6/MAC_RXD0/SDIO1_BKPWR/FLASH1_D6/GPIO3_D6_u (io), AA4 HOST_D7/MAC_RXD1/SDIO1_INTn/FLASH1_D7/GPIO3_D7_u (io), AA5 HOST_D14/MAC_COL/FLASH1_DQS/FLASH1_CSn3/GPIO4_B0_u (io), AA6 HOST_D13/MAC_CRS/SDIO1_CLKOUT/FLASH1_CSn1/GPIO4_A7_u (io), AB1 HOST_D2/MAC_RXD2/SDIO1_D2/FLASH1_D2/GPIO3_D2_u (io), AB2 HOST_D5/MAC_TXD1/SDIO1_WRPRT/FLASH1_D5/GPIO3_D5_u (io), AB5 HOST_D12/MAC_RXCLK/SDIO1_CMD/FLASH1_CSn0/GPIO4_A6_u (io), AC1 HOST_D3/MAC_RXD3/SDIO1_D3/FLASH1_D3/GPIO3_D3_u (io), AC2 HOST_CKOUTN/MAC_RXDV/FLASH0_CSn4/FLASH1_WP/GPIO4_A1_u (io), AC3 HOST_CKOUTP/MAC_MDC/FLASH1_RDY/GPIO4_A0_u (io), AD1 HOST_D4/MAC_TXD0/SDIO1_DET/FLASH1_D4/GPIO3_D4_u (io), AD2 HOST_D10/MAC_TXEN/FLASH0_CSn7/FLASH1_CLE/GPIO4_A4_u (io), AE1 HOST_D8/MAC_RXER/FLASH0_CSn5/FLASH1_RDN/GPIO4_A2_u (io), AE2 HOST_D9/MAC_CLK/FLASH0_CSn6/FLASH1_ALE/GPIO4_A3_u (io), V6 HOST_D1/MAC_TXD3/SDIO1_D1/FLASH1_D1/GPIO3_D1_u (io), V7 HOST_D15/MAC_TXCLK/SDIO1_PWREN/FLASH1_CSn2/GPIO4_B1_u (io), V8 FLASH1_VDD (power), Y4 HOST_D0/MAC_TXD2/SDIO1_D0/FLASH1_D0/GPIO3_D0_u (io), Y5 HOST_D11/MAC_MDIO/FLASH1_WRN/GPIO4_A5_u (io)
part R pins: L12 LOGIC_VDD1 (power), L16 GPU_VDD1 (power), L17 GPU_VDD2 (power), L18 GPU_VDD3 (power), L19 GPU_VDD4 (power), M12 LOGIC_VDD2 (power), M15 GPU_VDD_COM, M16 GPU_VDD5 (power), M17 GPU_VDD6 (power), M18 GPU_VDD7 (power), M19 GPU_VDD8 (power), N12 LOGIC_VDD3 (power), N16 GPU_VDD9 (power), N17 GPU_VDD10 (power), N18 GPU_VDD11 (power), N19 GPU_VDD12 (power), P12 LOGIC_VDD4 (power), R11 LOGIC_VDD8 (power), R12 LOGIC_VDD5 (power), T11 LOGIC_VDD9 (power), T12 LOGIC_VDD6 (power), T14 CPU_VDD_COM, U11 LOGIC_VDD10 (power), U12 LOGIC_VDD7 (power), U14 CPU_VDD1 (power), U15 CPU_VDD2 (power), U16 CPU_VDD3 (power), U17 CPU_VDD4 (power), U18 CPU_VDD5 (power), U19 CPU_VDD6 (power), V14 CPU_VDD7 (power), V15 CPU_VDD8 (power), V16 CPU_VDD9 (power), V17 CPU_VDD10 (power), V18 CPU_VDD11 (power), V19 CPU_VDD12 (power), V20 LCDC_VDD (power)
part S pins: A24 NC11 (in), A25 NC9 (out), AA14 NC28 (power), AA15 NC18 (power), AB14 NC14 (out), AB15 NC13 (out), AC14 NC16 (in), AC15 NC15 (in), AD14 NC20 (in), AD15 NC24 (out), AD17 NC22 (in), AD18 NC26 (out), AE14 NC19 (in), AE15 NC23 (out), AE17 NC21 (in), AE18 NC25 (out), B24 NC12 (in), B25 NC10 (out), G9 NC7, J7 NC8, Y14 NC27 (power), Y15 NC17 (power)
part T pins: P21 RECOVER/ADC_IN1 (in), P23 ADC_IN2 (in), P24 ADC_IN0 (in), R20 ADC_AVDD_1V8 (power)
part U pins: A27 HSIC_DATA, B27 HSIC_STROBE, H20 HSIC_AVDD_1V2 (power)
part V pins: AC22 MIPI_TX_AVDD_1V8 (power), AC27 MIPI_TX_D3P (out), AC28 MIPI_TX_D3N (out), AD27 MIPI_TX_D2P (out), AD28 MIPI_TX_D2N (out), AE26 MIPI_TX_REXT, AE27 MIPI_TX_CLKP (out), AE28 MIPI_TX_CLKN (out), AF27 MIPI_TX_D1P (out), AF28 MIPI_TX_D1N (out), AG27 MIPI_TX_D0P (out), AG28 MIPI_TX_D0N (out)
part W pins: AC20 MIPI_RX_AVDD_1V8 (power), AD21 MIPI_RX_REXT, AG23 MIPI_RX_D0P (in), AG24 MIPI_RX_D1P (in), AG25 MIPI_RX_CLKP (in), AG26 MIPI_RX_D2P (in), AH23 MIPI_RX_D0N (in), AH24 MIPI_RX_D1N (in), AH25 MIPI_RX_CLKN (in), AH26 MIPI_RX_D2N (in), AH27 MIPI_RX_D3N (in), AH28 MIPI_RX_D3P (in)
part X pins: AC21 MIPI_TX/RX_AVDD_1V8 (power), AD22 MIPI_TX/RX_REXT, AD25 MIPI_TX/RX_D3N (io), AE20 MIPI_TX/RX_D0P (io), AE21 MIPI_TX/RX_D1P (io), AE23 MIPI_TX/RX_CLKP (io), AE24 MIPI_TX/RX_D2P (io), AF20 MIPI_TX/RX_D0N (io), AF21 MIPI_TX/RX_D1N (io), AF23 MIPI_TX/RX_CLKN (io), AF24 MIPI_TX/RX_D2N (io), AF25 MIPI_TX/RX_D3P (io)
part A text: LCDC domain; LVDS domain

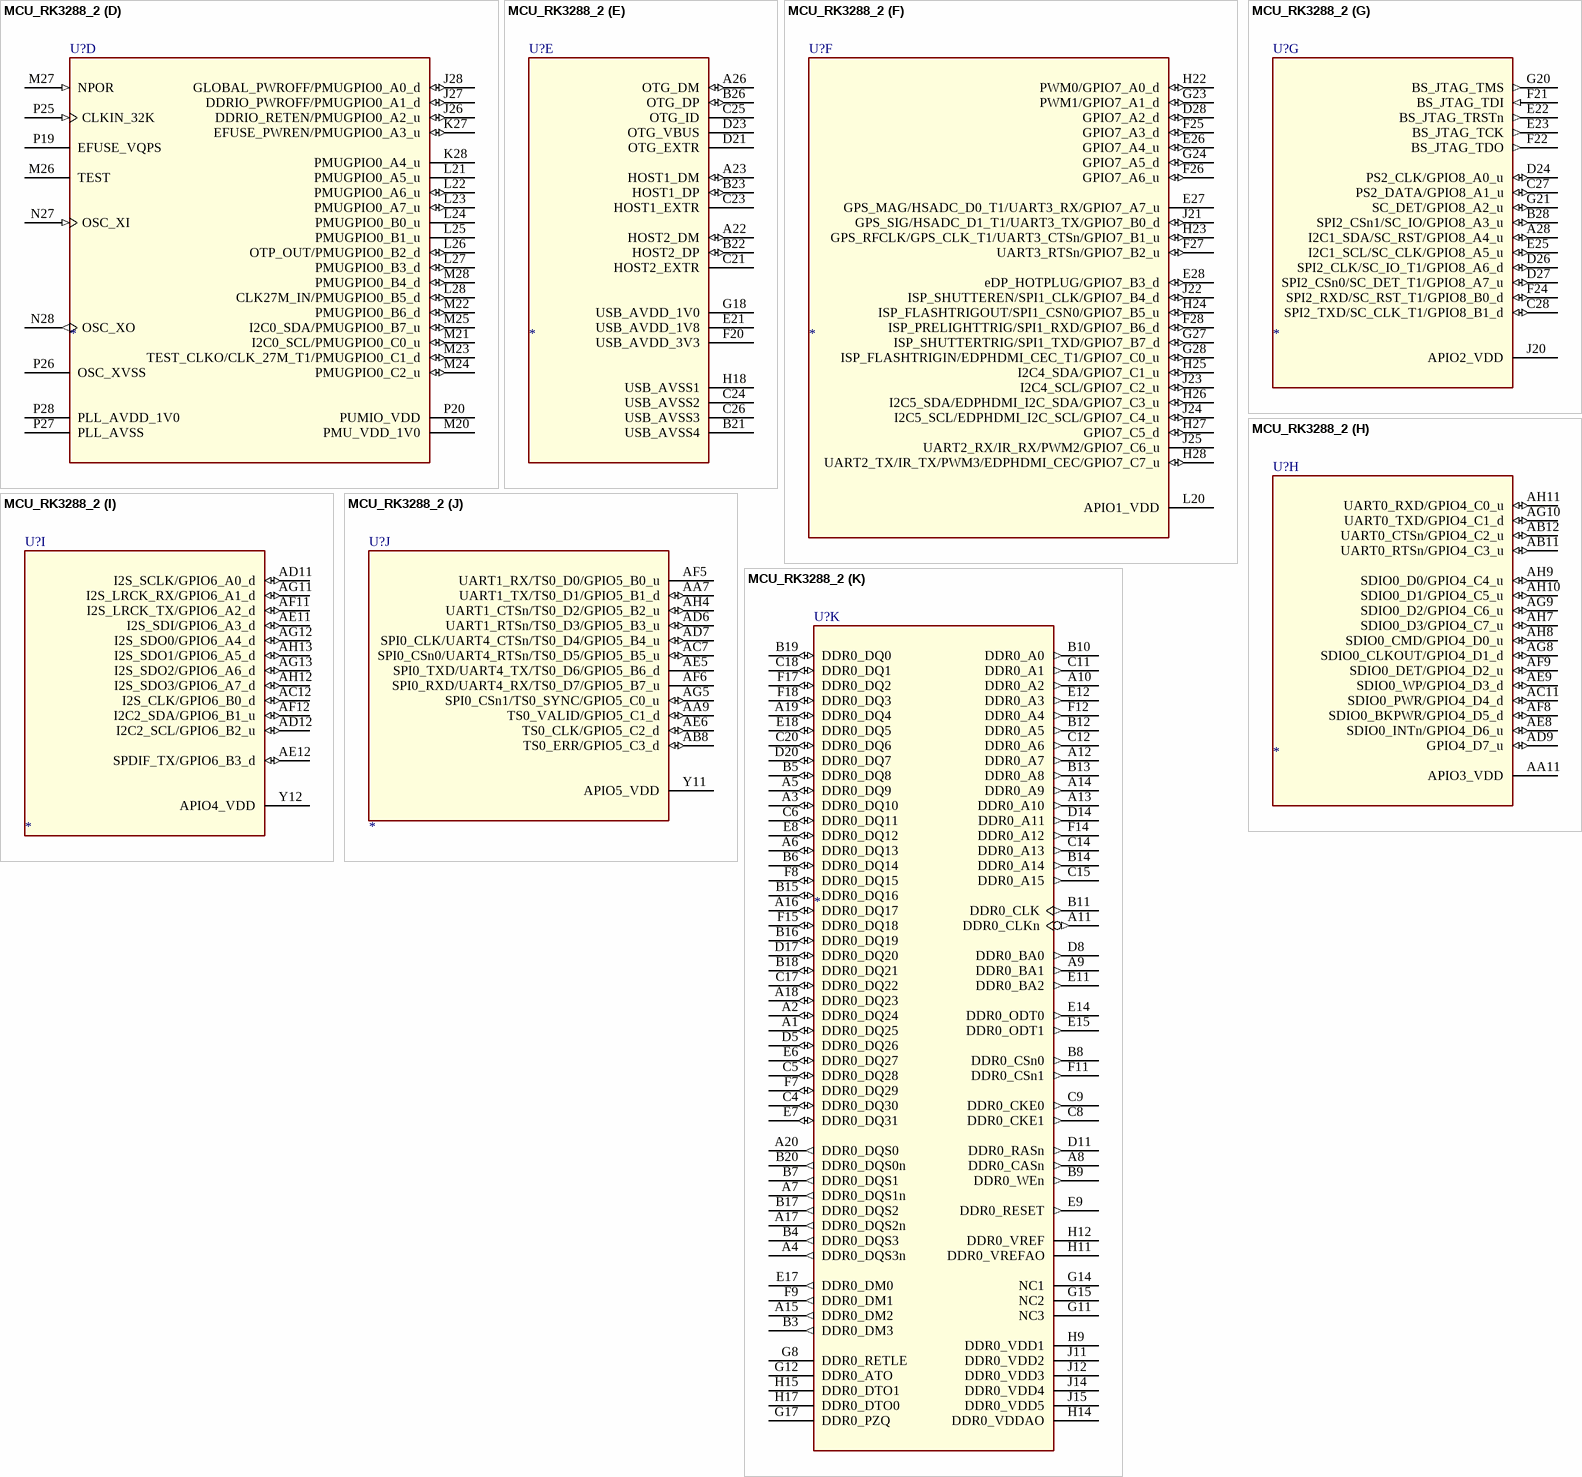
[diagram p22: symbol MCU_RK3288_2]

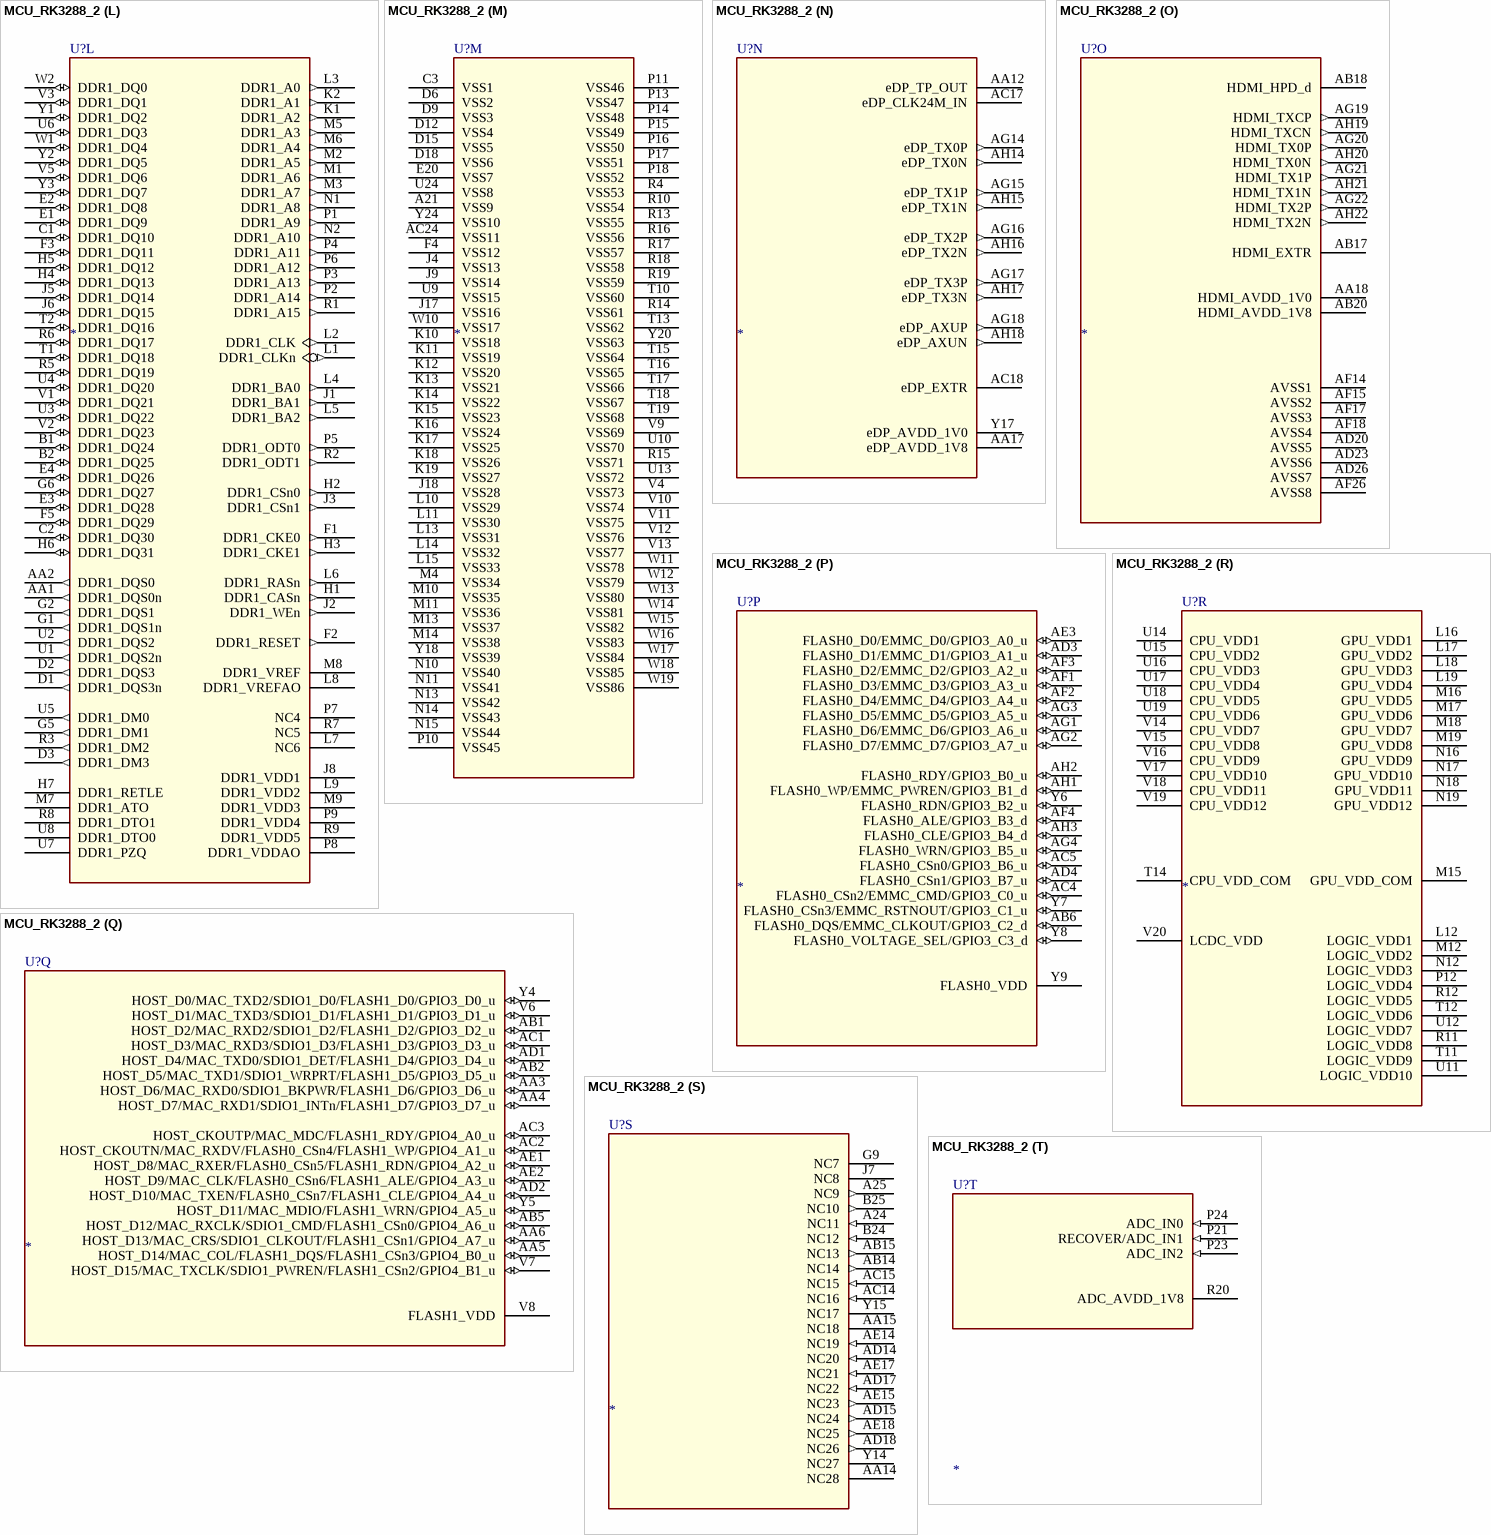
[diagram p23: symbol MCU_RK3288_2]

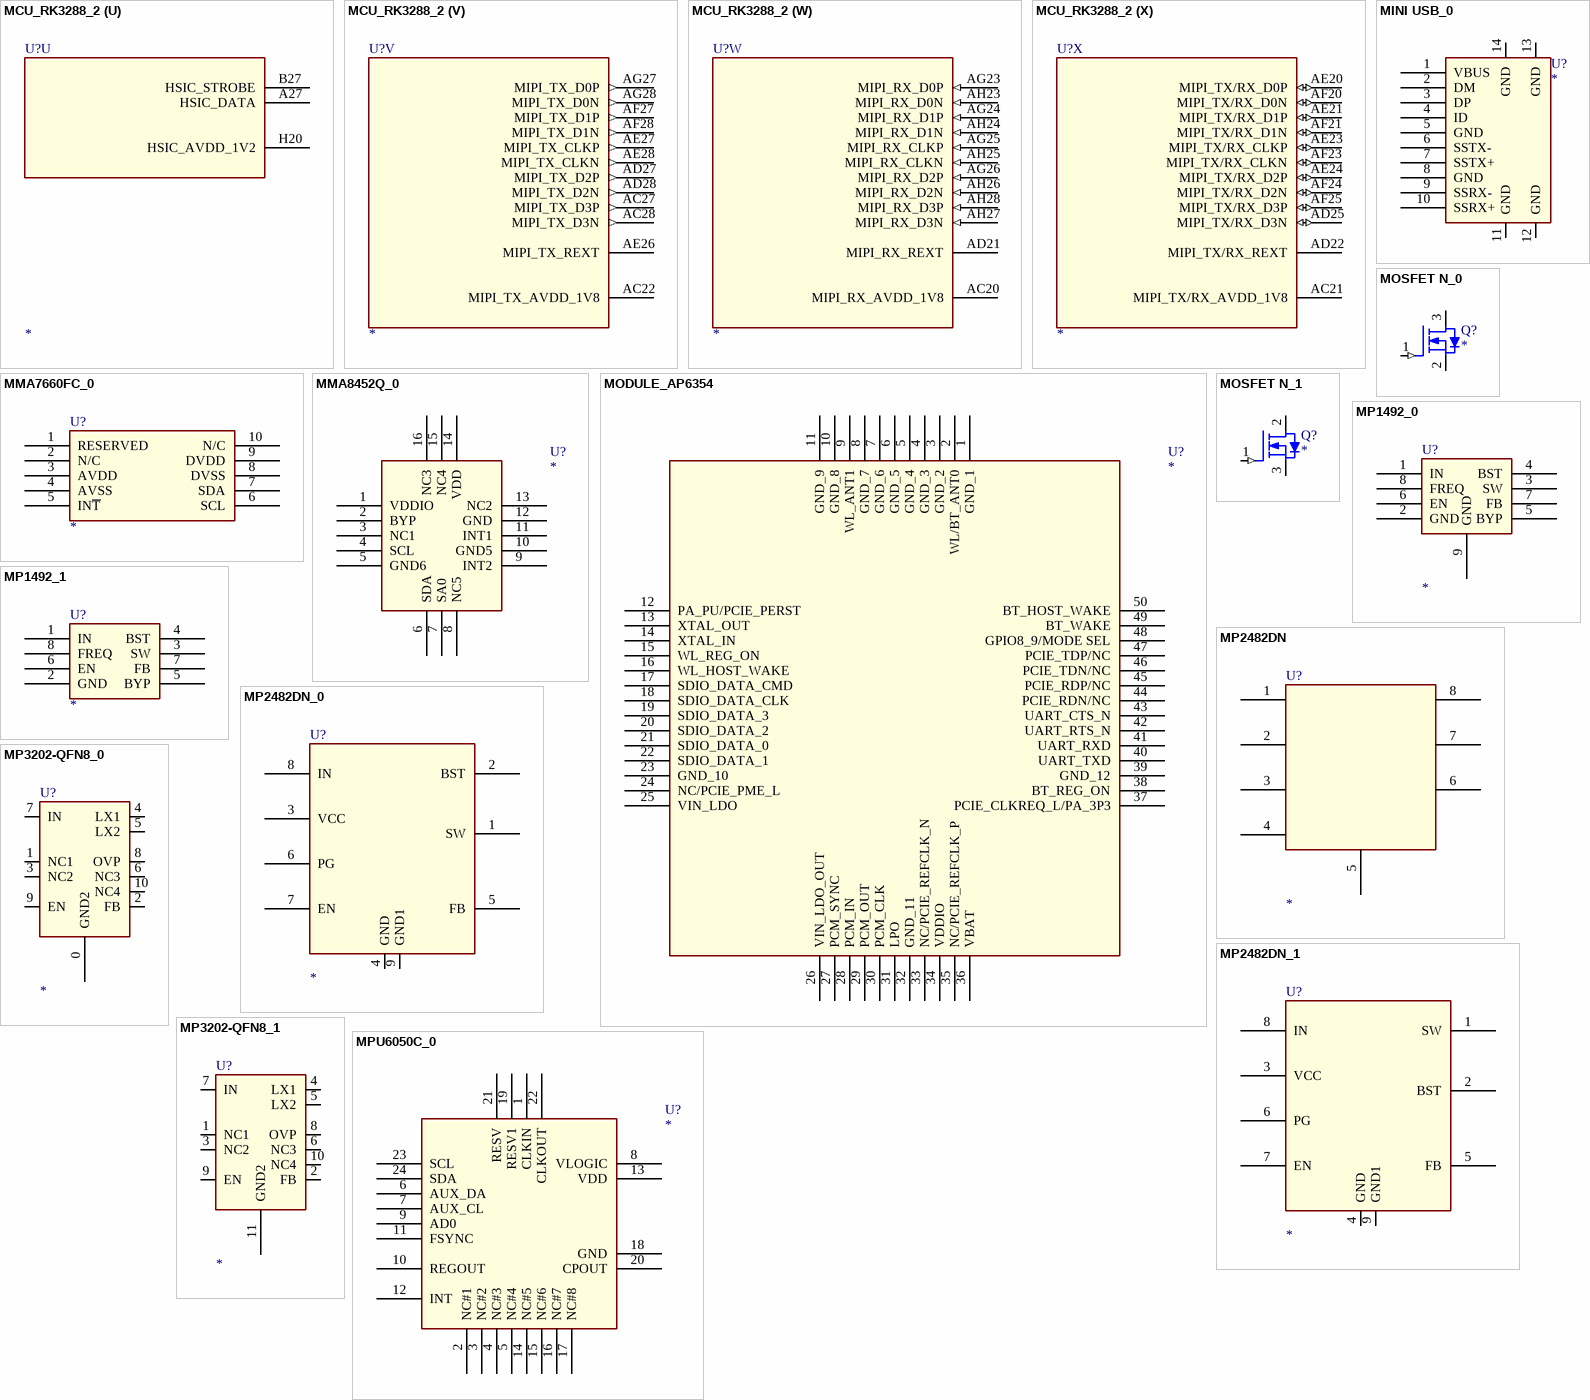
[diagram p24: symbols MCU_RK3288_2 to MPU6050C_0]